# Altium integrated library Ref_altium lib_R0.IntLib: 381 symbols (part 2 of 4)
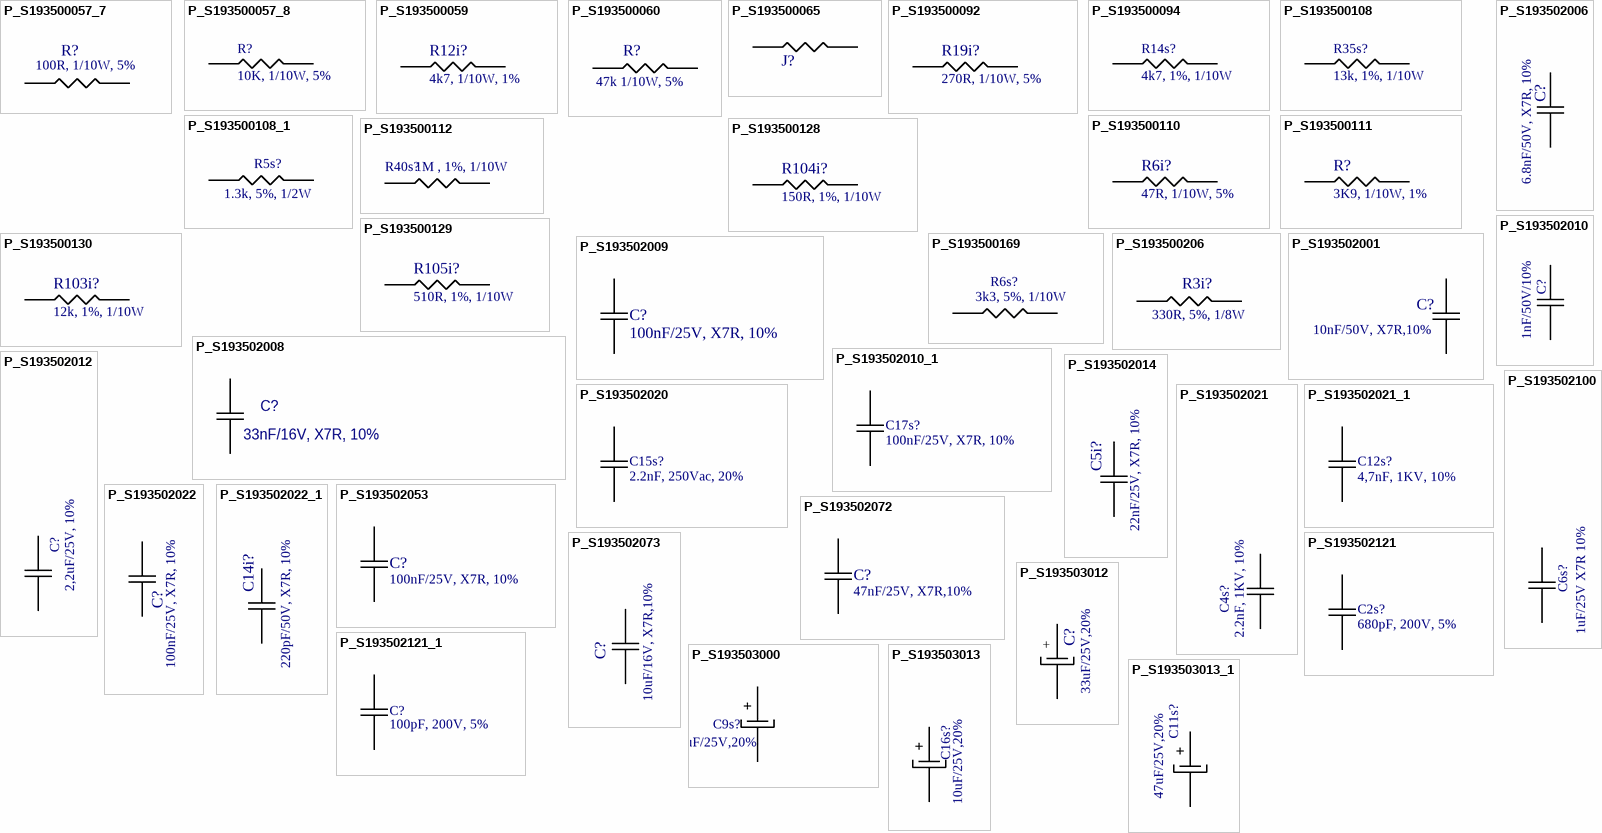
[diagram p12: symbols P_S193500057_7 to P_S193503013_1]

## P_S193502010_1
designator C17s?, comment value 100nF/25V, X7R, 10%  (hidden comment: P_S193502010)
100nF/25V, X7R, 10%; COMPONENT: CAP., 0603 SIZE, 100nF/25V, X7R, 10%; Text Field1: 2238 916 15649 @  Reel 180mm (7") 4000PÇS; Text Field2: PHYCOMP; Text Field3: 2238 916 55649 @  Reel 330mm (13") 15000PÇS; Text Field5: VJ0603Y104KXXAC @ 7" Reel 4000PÇS; Text Field6: VISHAY; EECON CODE: 0193502010; Text Field7: VJ0603Y104KXXAT @ 7" Reel 4000PÇS; Text Field9: C0603C104K5RAC3946 @ Reel 4000 PÇS; Text Field10: KEMET; Text Field11: C0603KRX7R8BB104 @ Reel 180mm (7") 4000PÇS; Text Field12: YAGEO; Text Field13: C0603KPX7R8BB104 @ Reel 330mm (13") 15000PÇS; DES: C17s; Text Field4: PHYCOMP; Text Field8: VISHAY; Text Field14: YAGEO
footprint 0603_R_V0
footprint 0603_O_V0
footprint 0603_O_V1
footprint 0603_R_V3
pins: 1, 2

## P_S193502012
designator C?  value 2,2uF/25V, 10%  (hidden comment: P_S193502012)
2,2uF/25V, 10%; Text Field1: 2222 780 15656 @ Reel (7") 3000PÇS; Text Field2: PHYCOMP; Text Field3: 2222 780 55656 @ Reel (13") 10000PÇS; COMPONENT: CAP., 0805 SIZE, 330nF/16V, X7R, 10%; EECON CODE: new; Text Field4: PHYCOMP
footprint 0805_R_V0
footprint 0805_O_V0
footprint 0805_R_V3
pins: 1, 2

## P_S193502014
designator C5i?  value 22nF/25V, X7R, 10%  (hidden comment: P_S193502014)
22nF/25V, X7R, 10%; Text Field1: 2238 916 15641 @ Reel (7") 4000PÇS; Text Field2: PHYCOMP; Text Field3: 2238 916 55641 @ Reel (13") 15000PÇS; COMPONENT: CAP., 0603 SIZE, 22nF/25V, X7R, 10%; EECON CODE: 0193502014; Text Field4: PHYCOMP
footprint 0603_R_V0
footprint 0603_O_V0
footprint 0603_O_V1
pins: 1, 2

## P_S193502020
designator C15s?  value 2.2nF, 250Vac, 20%  (hidden comment: P_S193502020)
2.2nF, 250Vac, 20%; COMPONENT: CAP., 1206 SIZE, 2.2nF/500V, X7R, +-10%; Text Field1: 2222 971 15627 @ Reel (7") 3000PÇS; Text Field2: PHYCOMP; Text Field3: 2222 971 55627 @ Reel (13") 10000PÇS; EECON CODE: 0193502020; Text Field5: C1206C222KCRAC7533 @  Reel 2500PÇS; Text Field6: KEMET; DES: C15s; Text Field4: PHYCOMP
footprint CAP_CERAMIC_12MM_V0_WHP (C15)
pins: 1, 2

## P_S193502021
designator C4s?  value 2.2nF, 1KV, 10%  (hidden comment: P_S193502021)
2.2nF, 1KV, 10%; COMPONENT: CAP., 0603 SIZE, 2.2nF/50V, X7R, 10%; Text Field1: 2238 586 15627 @ Reel (7") 4000PÇS; Text Field2: PHYCOMP; Text Field3: 2238 586 55627 @ Reel (13") 15000PÇS; EECON CODE: 0193502021; Text Field5: C0603KRX7R9BB222 @ Reel 180mm (7") 4000PÇS; Text Field6: YAGEO; Text Field7: C0603KPX7R9BB222 @ Reel 330mm (13") 15000PÇS; Text Field9: VJ0603Y222KXAAC @ 180mm(7") Reel/4000PÇS; Text Field10: VISHAY; Text Field11: VJ0603Y222KXAAT @ 180mm(7") Reel/4000PÇS; Text Field13: C0603C222K5RACTU @ 180mm(7") Reel 4000PÇS; Text Field14: KEMET; Text Field15: C0603C222K5RAC7867 @ 180mm(7") Reel 4000PÇS; DES: C4s; Text Field4: PHYCOMP; Text Field8: YAGEO; Text Field12: VISHAY; Text Field16: KEMET
footprint CAP_CERAMIC_11MM_V0_WHP (C4)
footprint 2010_R_V0
pins: 1, 2

## P_S193502021_1
designator C12s?, comment value 4,7nF, 1KV, 10%  (hidden comment: P_S193502021)
4,7nF, 1KV, 10%; COMPONENT: CAP., 0603 SIZE, 2.2nF/50V, X7R, 10%; Text Field1: 2238 586 15627 @ Reel (7") 4000PÇS; Text Field2: PHYCOMP; Text Field3: 2238 586 55627 @ Reel (13") 15000PÇS; EECON CODE: 0193502021; Text Field5: C0603KRX7R9BB222 @ Reel 180mm (7") 4000PÇS; Text Field6: YAGEO; Text Field7: C0603KPX7R9BB222 @ Reel 330mm (13") 15000PÇS; Text Field9: VJ0603Y222KXAAC @ 180mm(7") Reel/4000PÇS; Text Field10: VISHAY; Text Field11: VJ0603Y222KXAAT @ 180mm(7") Reel/4000PÇS; Text Field13: C0603C222K5RACTU @ 180mm(7") Reel 4000PÇS; Text Field14: KEMET; Text Field15: C0603C222K5RAC7867 @ 180mm(7") Reel 4000PÇS; DES: C12s; Text Field4: PHYCOMP; Text Field8: YAGEO; Text Field12: VISHAY; Text Field16: KEMET
footprint CAP_CERAMIC_11MM_V0_WHP (C4)
footprint CP6X18R600D
footprint 2010_R_V0
pins: 1, 2

## P_S193502022
designator C?  value 100nF/25V, X7R, 10%  (hidden comment: P_S193502022)
100nF/25V, X7R, 10%; Text Field1: 2238 586 15614 @ (7") 4000PÇS; Text Field2: PHYCOMP; Text Field3: 2238 586 55614 @ (13")  15000PÇS; COMPONENT: CAP., 0603 SIZE, 220pF/50V, X7R, 10%; EECON CODE: 0193502022; Text  Field5: C0603C221K1GAC7533 @ Reel 4000; Text  Field6: KEMET; Text Field4: PHYCOMP
footprint 0603_R_V0
footprint 0603_O_V0
footprint 0603_O_V1
footprint 0603_R_V3
pins: 1, 2

## P_S193502022_1
designator C14i?, comment value 220pF/50V, X7R, 10%  (hidden comment: P_S193502022)
220pF/50V, X7R, 10%; Text Field1: 2238 586 15614 @ (7") 4000PÇS; Text Field2: PHYCOMP; Text Field3: 2238 586 55614 @ (13")  15000PÇS; COMPONENT: CAP., 0603 SIZE, 220pF/50V, X7R, 10%; EECON CODE: 0193502022; Text  Field5: C0603C221K1GAC7533 @ Reel 4000; Text  Field6: KEMET; Text Field4: PHYCOMP
footprint 0603_R_V0
footprint 0603_O_V0
footprint 0603_O_V1
pins: 1, 2

## P_S193502053
designator C?  value 100nF/25V, X7R, 10%  (hidden comment: P_S193502053)
100nF/25V, X7R, 10%; Text Field1: 2238 581 15649 @ Reel 4000PÇS; Text Field2: PHYCOMP; Text Field3: 2238 581 55649 @ Reel 15000PÇS; Text Field5: C1206C104K5RAC3946 @ Reel 2000-3000 PÇS; Text Field6: EPCOS; Text Field7: 2222 581 16641 @ Reel 3000PÇS; COMPOENENT: CAP., 1206 SIZE, 100nF/50V, X7R, 10%; EECON CODE: 0193502053; Text Field4: PHYCOMP; Text Field8: PHYCOMP
footprint 1206_R_V0
footprint 1206_O_V0
footprint 1206_R_VS0
footprint 0603_O_V1
pins: 1, 2

## P_S193502072
designator C?  value 47nF/25V, X7R,10%  (hidden comment: P_S193502072)
47nF/25V, X7R,10%; Text Field1: 2238 916 15645 @ Reel 4000PÇS; Text Field2: PHYCOMP; COMPONENT: CAP.,0603 SIZE,47nF/25V,X7R,10%; EECON CODE: 0193502072
footprint 0603_R_V0
footprint 0603_O_V0
footprint 0603_O_V1
footprint 0603_R_V3
pins: 1, 2

## P_S193502073
designator C?  value 10uF/16V, X7R,10%  (hidden comment: P_S193502073)
10uF/16V, X7R,10%; Text Field1: 2222 781 15672 @ Reel 3000PÇS; Text Field2: PHYCOMP; Text Field3: C1206C475K4RAC7533 @ Reel 2500PÇS; COMPONENT: CAP.,1206 SIZE,4u7F/16V, X7R,10%; EECON CODE: 0193502073; Text Field4: KEMET
footprint 1206_R_V0
footprint 1206_O_V0
pins: 1, 2

## P_S193502100
designator C6s?  value 1uF/25V X7R 10%  (hidden comment: P_S193502100)
1uF/25V X7R 10%; COMPONENT: Capacitor MLCC 1uF 10% 0805 25V X7R; Text Field2: Yageo / Phycomp; Text Field1: 2222 910 15663; DES: C6s; EECON CODE: 193502100
footprint 0805_R_V0
footprint 0805_O_V0
footprint 1206_R_V0
footprint 0805_R_V3
footprint 0805_R_V4
footprint 0805_O_V1
pins: 1, 2

## P_S193502121
designator C2s?  (value not drawn)
820pF/25V,NP0,1%; Text Field1: 223891611348 @ Reel 5000PÇS; Text Field2: PHYCOMP; COMPONENT: CAP.,0603 SIZE,820pF/25V,NP0,1%; EECON CODE: 0193502121; DES: C2s; Value: 820pF/25V,NP0,1%
footprint 0603_R_V0
footprint 0603_O_V0
footprint 1206_R_V2
footprint 1206_R_V2
footprint 1206_O_V0
pins: 1, 2
text: 680pF, 200V, 5%

## P_S193502121_1
designator C?, comment P_S193502121  (value not drawn)
820pF/25V,NP0,1%; Text Field1: 223891611348 @ Reel 5000PÇS; Text Field2: PHYCOMP; COMPONENT: CAP.,0603 SIZE,820pF/25V,NP0,1%; EECON CODE: 0193502121; DES: C21; Value: 820pF/25V,NP0,1%
footprint 0603_R_V0
footprint 0603_O_V0
footprint 0805_R_V3
footprint 0805_R_V4
footprint 0805_O_V1
footprint 0603_O_V1
pins: 1, 2
text: 100pF, 200V, 5%

## P_S193503000
designator C9s?  value 470uF/25V,20%  (hidden comment: P_S193503000)
470uF/25V,20%; COMPONENT: CAP., 470uF/25V,FK MODEL, 2000h, 105C; Text Field1: EEEFK1E471P @ AMMOPACK 500PÇS; Text Field2: PANASONIC; Text Field3: EEVFK1E471P @ AMMOPACK 500PÇS; EECON CODE: 0193503000; DES: C9s; Text Field4: PANASONIC
footprint CAP-ELETRO-G_R_V0
footprint CAP-ELETRO-EB-8_V0
pins: 1, 2
text: +

## P_S193503012
designator C?  value 33uF/25V,20%  (hidden comment: P_S193503012)
33uF/25V,20%; Text Field1: EEEFK1E330UR @ AMMOPACK 1000PÇS; Text Field2: PANASONIC; COMPONENT: CAP.ELET. ,33uF/25,FK Model,2000h,105C,20%; EECON CODE: 0193503012
footprint CAP-ELETRO-C_R_V0
pins: 1, 2
text: +

## P_S193503013
designator C16s?  value 10uF/25V,20%  (hidden comment: P_S193503013)
10uF/25V,20%; COMPONENT: CAP.ELET.,10uF/25V; Text Field1: UCD1E100MCL1GS; Text Field2: NICHICON; EECON CODE: new; DES: C16s
footprint CAP-ELETRO-F_R_V0
footprint CAP-ELETRO-B_R_V0
footprint CAP-ELETRO-B_R_V1
pins: 1, 2
text: +

## P_S193503013_1
designator C11s?, comment value 47uF/25V,20%  (hidden comment: P_S193503013)
47uF/25V,20%; COMPONENT: CAP.ELET.,47uF/25V; Text Field2: NICHICON; Text Field1: UCD1E470MCL1GS; EECON CODE: new; DES: C11s
footprint CAP-ELETRO-F_R_V2 (From IPC-7351 Spec)
footprint CAP-ELETRO-C_R_V3
pins: 1, 2
text: +

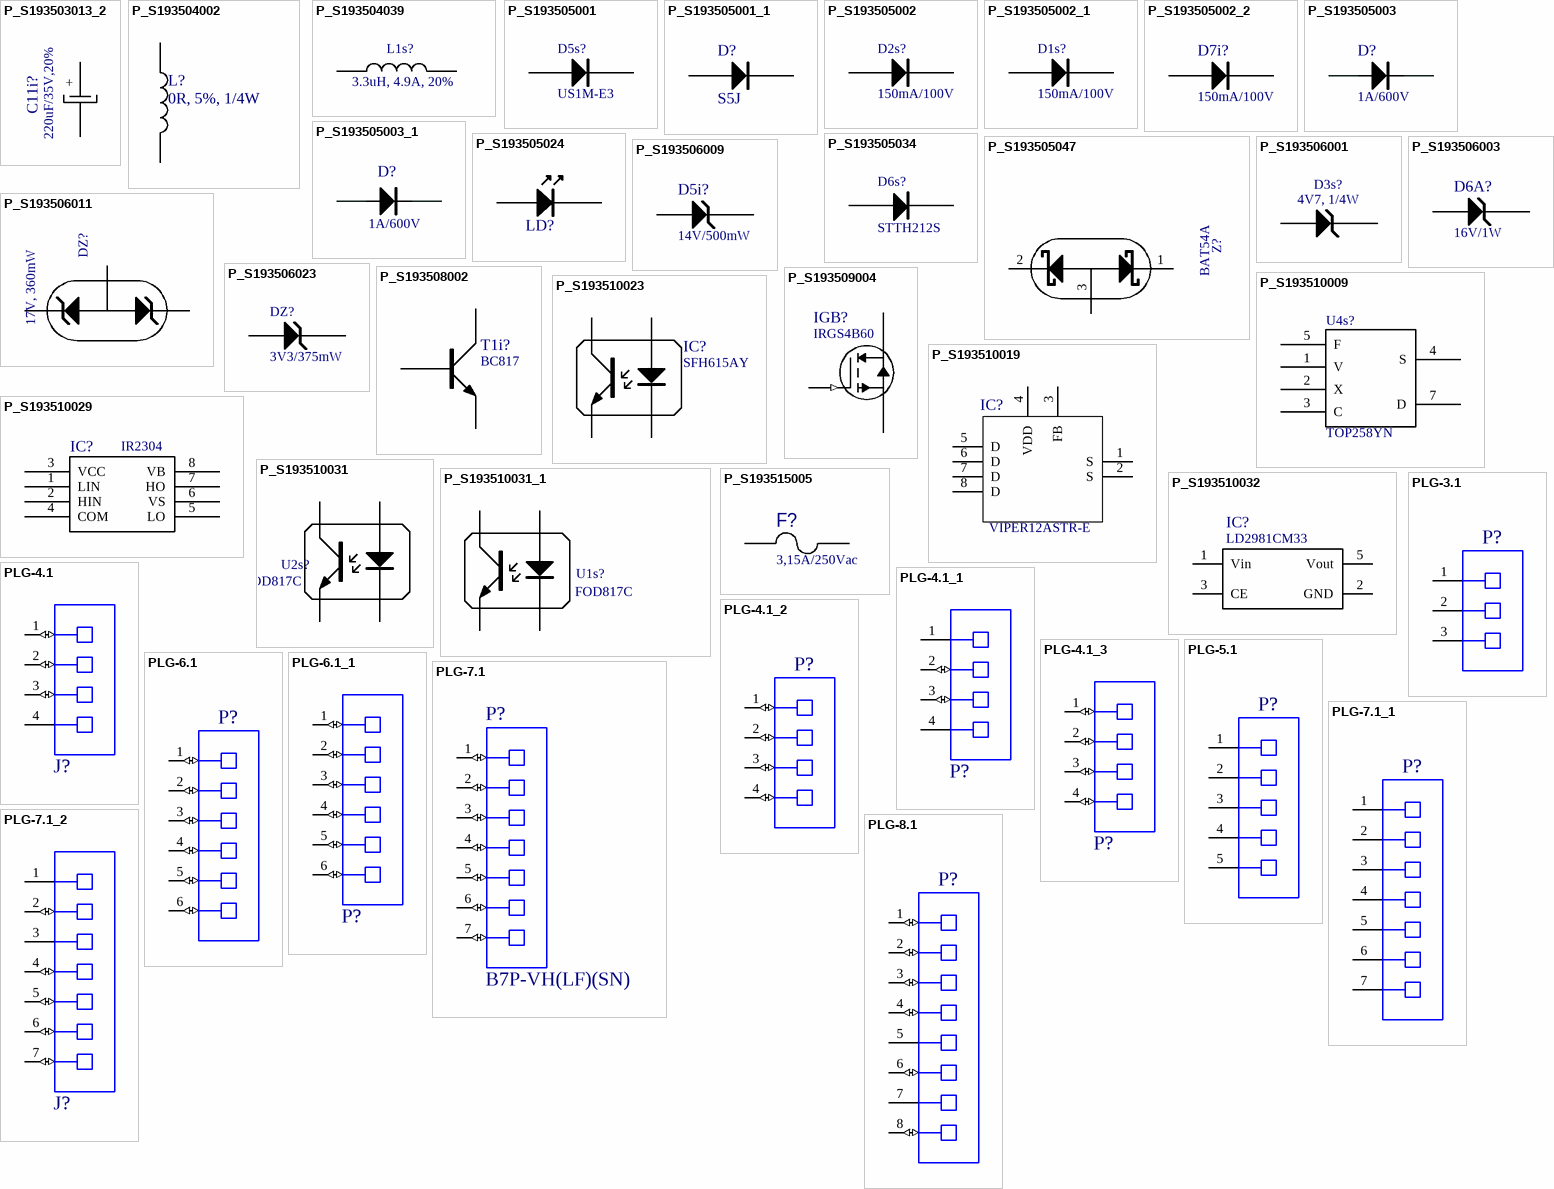
[diagram p3: symbols P_S193503013_2 to PLG-8.1]

## P_S193503013_2
designator C11i?, comment value 220uF/35V,20%  (hidden comment: P_S193503013)
220uF/35V,20%; Text Field1: EEEFK1V221P @ AMMOPACK 500PÇS; Text Field2: PANASONIC; COMPONENT: CAP.ELET.,220uF/35FK Model , 2000h,105C, 20%; EECON CODE: 0193503013
footprint CAP-ELETRO-F_R_V0
footprint CAP_ELETRO_F_R_VS0
footprint CAP-ELETRO-F_R_V2
pins: 1, 2
text: +

## P_S193504002
designator L?  value 0R, 5%, 1/4W  (hidden comment: P_S193504002)
0R, 5%, 1/4W; Text Field1: FERRITE INDUCTOR , 1812, 120 ohms @ 100Mhz, 1.5A; Text Field2: M11812K121R-10; Text Field3: STEWARD; DES: L001
footprint 1812_O_V0
footprint 1812_O_VS0
footprint 1812_R_V0
pins: 1, 2

## P_S193504039
designator L1s?  value 3.3uH, 4.9A, 20%  (hidden comment: P_S193504039)
3.3uH, 4.9A, 20%; Text Field3: VISHAY; Text Field2: IHLP5050EZER4R7M01; COMPONENT: Low profile, High Current Inductor 4,7uH/12A; EECON CODE: 0193504039; DES: L1s
footprint INDUCTOR_3u3H_RADIAL (3.3uH/20% 4.9A - ELC11D3R3F / PANASONIC)
pins: 1, 2

## P_S193505001
designator D5s?  (value not drawn)
5A/600V; COMPONENT: DIODE, SMC,5A/600V; Text Field1: S5JC-13-F @ TAPE & REEL 3000PÇS; Text Field2: DIODES; EECON CODE: 0193505001; DES: D5s; Value: 5A/600V
footprint SMC_R_V0
footprint SMC_O_V0
footprint SMA_403D_R_V0
footprint SMA_R_V3
footprint SMA_403D_O_V1
pins: 1, 2
text: US1M-E3

## P_S193505001_1
designator D?, comment value S5J  (hidden comment: P_S193505001)
S5J; Text Field1: DIODE 5A/600V; Text Field2: S5JC-13-F @ TAPE & REEL 3000PÇS; Text Field3: DIODES; DES: D002
footprint SMC_O_V0
footprint SMC_R_V0
pins: 1, 2

## P_S193505002
designator D2s?  value 150mA/100V  (hidden comment: P_S193505002)
150mA/100V; COMPONENT: FAST SWITCHING DIODE 150mA/100V MINIMELF-SOD-80; Text Field1: LL4148 GS08 @ Reel 2500PÇS; Text Field2: VISHAY; EECON CODE: 0193505002; Text Field3: LL4148-GS18 @ Reel 10000PÇS; Text Field5: LS4148GS08 @ Reel 2500PÇS; DES: D2s; Text Field4: VISHAY; Text Field6: VISHAY
footprint MINIMELF_R_V0
footprint MINIMELF_O_V0
footprint MIniMELF_R_V0_WHP
pins: 1, 2

## P_S193505002_1
designator D1s?, comment value 150mA/100V  (hidden comment: P_S193505002)
150mA/100V; COMPONENT: FAST SWITCHING DIODE 150mA/100V MINIMELF-SOD-80; Text Field1: LL4148 GS08 @ Reel 2500PÇS; Text Field2: VISHAY; EECON CODE: 0193505002; Text Field3: LL4148-GS18 @ Reel 10000PÇS; Text Field5: LS4148GS08 @ Reel 2500PÇS; DES: D1s; Text Field4: VISHAY; Text Field6: VISHAY
footprint MINIMELF_R_V0
footprint MINIMELF_O_V0
footprint MIniMELF_R_V0
footprint MIniMELF_R_V0_WHP
pins: 1, 2

## P_S193505002_2
designator D7i?, comment value 150mA/100V  (hidden comment: P_S193505002)
150mA/100V; Text Field1: LL4148 GS08 @ Reel 2500PÇS; Text Field2: VISHAY; Text Field3: LL4148-GS18 @ Reel 10000PÇS; Text Field5: LS4148GS08 @ Reel 2500PÇS; COMPONENT: FAST SWITCHING DIODE 150mA/100V MINIMELF-SOD-80; EECON CODE: 0193505002; Text Field4: VISHAY; Text Field6: VISHAY
footprint MINIMELF_R_V0
footprint MINIMELF_O_V0
pins: 1, 2

## P_S193505003
designator D?  value 1A/600V  (hidden comment: P_S193505003)
1A/600V; Text Field1: BYM11-600-E3/96 @ Reel 1500PÇS; Text Field2: GENERAL SEMICONDUCTOR; Text Field3: BYM11-600-E3/76 @ Reel 1500PÇS; COMPONENT: FAST RECOVER DIODE, 1A/600V, DO213-AB; EECON CODE: 0193505003; Text Field5: BYM11-600-E3/76 - GS @ Reel 5000PÇS; Text Field6: VISHAY; Text Field7: BYM11-600-E3/96 - GS @ Reel 1500PÇS; Text Field4: GENERAL SEMICONDUCTOR; Text Field8: VISHAY
footprint MELF_R_V0
footprint MELF_O_V0
pins: 1, 2

## P_S193505003_1
designator D?, comment value 1A/600V  (hidden comment: P_S193505003)
1A/600V; Text Field1: BYM11-600-E3/96 @ Reel 1500PÇS; Text Field2: GENERAL SEMICONDUCTOR; Text Field3: BYM11-600-E3/76 @ Reel 1500PÇS; COMPONENT: FAST RECOVER DIODE, 1A/600V, DO213-AB; EECON CODE: 0193505003; Text Field5: BYM11-600-E3/76 - GS @ Reel 5000PÇS; Text Field6: VISHAY; Text Field7: BYM11-600-E3/96 - GS @ Reel 1500PÇS; Text Field4: GENERAL SEMICONDUCTOR; Text Field8: VISHAY
footprint MELF_R_V0
footprint MELF_O_V0
footprint MELF1_R_VS1
pins: 1, 2

## P_S193505024
designator LD?  (value not drawn)
GREEN; Text Field1: XZBGA88WT1 @ Reel 2000PÇS; Text Field2: SUNLED; COMPONENT: LAMP CHIP LED,3.2X1.0MM, GREEN; EECON CODE: 0193505024; Value: GREEN
footprint SML310W_O_V0
footprint SML310W_R_V0
footprint SML310W_R_V3
pins: 1 K, 2 A

## P_S193505034
designator D6s?  value STTH212S  (hidden comment: P_S193505034)
STTH212S; COMPONENT: FAST RECOVER DIODE, 2A/1000V, SMC; Text Field2: ST; EECON CODE: new; DES: D6s; Text Field1: STTH212S
footprint SMC_R_V0
footprint SMC_R_V0_WHP
footprint SMC_R_V0_WHP
footprint SMC_O_V0
pins: 1, 2

## P_S193505047
designator Z?, comment value BAT54A  (hidden comment: P_S193506011)
BAT54A; COMPONENT: SMD SCHOTTKY DIODE, DOUBLE COMMON ANODE, SOT23; Text Field2: VISHAY; EECON CODE: 0193505047; Text Field1: BAT54A-V-GS08 @ Reel 3000PÇS
footprint SOT-23_R_V0
footprint SOT-23_O_V0
footprint SOT-23_R_V1_WHP
pins: 1, 2, 3
1 alternate drawing of the same symbol

## P_S193506001
designator D3s?  value 4V7, 1/4W  (hidden comment: P_S193506001)
4V7, 1/4W; COMPONENT: SMD DIODE ZENER  SMALL SIGNALS SOT23, 2.4V, 225mW; Text Field1: BZX84-C2V4 @ Reel 13"10000PÇS   7"3000PÇS; Text Field2: Vishay; Text Field3: BZX84C2V4LT1G @ Reel 3000PÇS; Text Field4: ON SEMICONDUCTORS; EECON CODE: 0193506001; DES: D3s
footprint SOT-23_R_V0
footprint SOT-23_O_V0
footprint SOT-23_R_V1_WHP
footprint SOT23_V0
pins: 1, 3

## P_S193506003
designator D6A?  value 16V/1W  (hidden comment: P_S193506003)
16V/1W; Text Field1: MMSZ4703T1G @ Reel 3000PÇS; Text Field2: ON SEMICONDUTOR; Text Field3: MMSZ4703-V-GS08 @ Reel 3000PÇS; COMPONENT: DIODE ZENER  16V/500mW; EECON CODE: 0193506003; Text Field4: Vishay
footprint SOD-123_R_V0
footprint SOD-123_O_V0
footprint SOD-123_R_VS0
footprint SOD-123_R_V2
pins: 1, 2

## P_S193506009
designator D5i?  value 14V/500mW  (hidden comment: P_S193506009)
14V/500mW; Text Field1: MMSZ4701-V-GS18@PGK 10000PÇS; Text Field2: ONSEMI; Text Field3: MMSZ4701-V-GS08@PGK 15000PÇS; Text Field5: MMSZ4701T1G @ Reel 3000PÇS; COMPONENT: DIODE ZENER, 14V/500mW,SOD-123; Text Field4: ONSEMI; EECON CODE: 193506009; Text Field6: ONSEMI
footprint SOD-123_R_V0
footprint SOD-123_O_V0
footprint SOD-123_R_V2
pins: 1, 2

## P_S193506011
designator DZ?  value 17V, 360mW  (hidden comment: P_S193506011)
17V, 360mW; COMPONENT: SMD DIODE ZENER, DOUBLE COMMON ANODE, SOT23 -5,6V, 300mW; Text Field2: ON SEMICONDUCTORS; EECON CODE: 0193506011; Text Field1: MMBZ5V6ALT1G @ Reel 3000PÇS; Text Field3: MMBZ5V6AL-7-F @ Reel 3000PÇS; Text Field4: DIODES
footprint SOT-23_R_V0
footprint SOT-23_O_V0
footprint SOT-23_R_V1_WHP
pins: 1, 2, 3
1 alternate drawing of the same symbol

## P_S193506023
designator DZ?  value 3V3/375mW  (hidden comment: P_S193506023)
3V3/375mW; COMPONENT: DIODE ZENER  16V/1W; Text Field1: KDZTR16B; Text Field2: ROHM; EECON CODE: 0193506023
footprint SOD-123_R_V0
footprint SOD-123_O_V0
footprint SMA_403D_R_V0
footprint SOD-123W_O_V0
footprint SOD-123_R_V2
pins: 1, 2

## P_S193508002
designator T1i?  value BC817  (hidden comment: P_S193508002)
BC817; Text Field1: BC817-25LT1G @ Reel 3000PÇS; Text Field2: ON SEMICONDUCTOR; Text Field3: BC81725, 215; Text Field4: NXP; COMPONENT: TRANSISTOR, NPN, SOT23; EECON CODE: 0193508002
footprint SOT-23_R_V0
footprint SOT-23_O_V0
footprint SOT-23_R_V1_WHP
pins: 1, 2, 3

## P_S193509004
designator IGB?  value IRGS4B60  (hidden comment: P_S193509004)
IRGS4B60; Text Field1: IRGS4B60KD1TRRPBF@ Standard Pack 50000PÇS; Text Field2: IR; COMPONENT: VERY FAST POWER IGBT 7,6A/600V; EECON CODE: 0193509004
footprint D2PAK_O_V0
footprint D2PAK_R_V0
footprint D2PAK_R_V5
pins: 1 (in), 2, 3

## P_S193510009
designator U4s?  (value not drawn)
DRIVER 2304S; COMPONENT: IC, DRIVER 2304S (ONLY IN PBF)  / 2104S (ALSO IN PBF); Text Field1: IR2304STRPBF @ Standard  Pack 95PÇS; Text Field2: IR; Text Field3: IR2104STRPBF @ Standard  Pack 95PÇS; EECON CONDE: 0193510009; DES: U4s; Text Field4: IR; Value: DRIVER 2304S
footprint TO220-7C
pins: 1 V, 2 X, 3 C, 4 S, 5 F, 7 D
text: TOP258YN

## P_S193510019
designator IC?  value VIPER12ASTR-E  (hidden comment: P_S193510019)
VIPER12ASTR-E; Text Field3: ST; COMPONENT: LOW POWER OFF LINE PRIMARY SWITCHER 400mA; EECON CODE: 0193510019; Text Field2: VIPER12ASTR-E
footprint SO-8_R_V0
footprint SO-8_O_V0
footprint SO-8_R_VS0
pins: 1 S, 2 S, 3 FB, 4 VDD, 5 D, 6 D, 7 D, 8 D

## P_S193510023
designator IC?  value SFH615AY  (hidden comment: P_S193510023)
SFH615AY; Text Field4: FOD817C3SD @ T&R 1000PÇS; Text Field5: FAIRCHILD; Text Field6: FOD817A3SD @ T&R 1000PÇS; COMPONENT: IC, OPTOACOPLADOR, VDE0884 APPROVED; EECON CODE: 0193510023; Text Field7: FAIRCHILD
footprint OPTO_R_V0
footprint OPTO_O_V0
footprint OPTO_R_V1_WHP
pins: 1, 2, 3, 4

## P_S193510029
designator IC?  value IR2304  (hidden comment: P_S193510029)
IR2304; Text Field1: IR2304SPbF@ Standard  Pack 95PÇS; Text Field2: IR; COMPONENT: IC, HIGH-VOLTAGE HIGH AND LOW SIDE DRIVER; EECON CODE: 0193510029
footprint SO-8_R_V0
footprint SO-8_O_V0
footprint SO-8_R_VS0
pins: 1 LIN, 2 HIN, 3 VCC, 4 COM, 5 LO, 6 VS, 7 HO, 8 VB

## P_S193510031
designator U2s?  value FOD817C  (hidden comment: P_S193510031)
FOD817C; COMPONENT: IC, OPTOACOPLADOR, VDE0884 APPROVED; Text Field1: SFH615AY-X019T; Text Field2: VISHAY; EECON CODE: 0193510031; DES: U2s
footprint OPTO_R_V0
footprint OPTO_O_V0
footprint OPTO_R_V1_WHP
pins: 1, 2, 3, 4

## P_S193510031_1
designator U1s?, comment value FOD817C  (hidden comment: P_S193510031)
FOD817C; COMPONENT: IC, OPTOACOPLADOR, VDE0884 APPROVED; Text Field1: SFH615AY-X019T; Text Field2: VISHAY; EECON CODE: 0193510031; DES: U1s
footprint OPTO_R_V0
footprint OPTO_O_V0
footprint OPTO_R_V1_WHP
footprint SO-16_R_WHP
pins: 1, 2, 3, 4

## P_S193510032
designator IC?  value LD2981CM33  (hidden comment: P_S193510032)
LD2981CM33; Text Field1: LD2981CM33TR @ Tape and Reel  3000PÇS; Text Field2: ST; COMPONENT: LINEAR VOLTAGE REGULADOR, SERIE MC78P00, LOW NOISE 150mA, LDO; EECON CODE: 0193510032
footprint SOT-23-5_R_V0
footprint SOT-25
footprint SOT-23-5_R_V1
pins: 1 Vin, 2 GND, 3 CE, 5 Vout

## P_S193515005
designator F?  value 3,15A/250Vac  (hidden comment: P_S193515005)
3,15A/250Vac; COMPONENT: FUSIVEL MODELO OMT 250V/1A; Text Field1: 3403.0130.24.BF @  T&R 2000PÇS; Text Field2: SCHURTER; EECON CODE: 0193515005; DES: F2
footprint FUSE_R_V0
footprint FUSE_O_V0
footprint Fuse_R_V0_WHP
footprint FUSE_SPT_R_V2
pins: 1, 2

## PLG-3.1
designator P?, comment DEV  (value not drawn)
MANUPARTNUM: B03B-XASK-1-A(LF)(SN); LEVEL: STD; PKG_TYPE: JST_B03B-XASK-1-A; DXDB_LIBNAME: CONNECTORS; ECAD#: 010-00032-00; STD_DESC: CONN HDR-VERT SHRD 3P 3A; P_SPACING: 2.5MM; AMPS: 3A; CIRCUITS: 3; DEV_PKG: PTH; CAM_PREFERRED: 1; EDC_P/N: W10113700; DES: P9; PACKAGE: PACK; DEVICE: DEV; DATE: 09-Oct-06; SUPPLIER#1_NAME: JST; STATUS: ACTIVE
footprint JST_B03B-XASK-1-A
footprint B03B-XASS-1_WHP
pins: 1 N1, 2 N2, 3 N3

## PLG-4.1
designator J?, comment DEV  (value not drawn)
MANUPARTNUM: B04B-PASK-1 (LF) (SN); LEVEL: STD; PKG_TYPE: JST_B04B-PASK-1; CAM_PREFERRED: 2; DXDB_LIBNAME: CONNECTORS; ECAD#: 010-00266-00; AML_REVISION: AC; STD_DESC: CONN VERT 4POS 3A 2MM SPC PTH ROHS; P_SPACING: 2MM; AMPS: 3A; CIRCUITS: 4; DEV_PKG: PTH; EDC_P/N: W10218944; DES: J1; PACKAGE: PACK; DEVICE: DEV; DATE: 15-Aug-08; SUPPLIER#1_NAME: JST; STATUS: PRELIM
footprint JST_B04B-PASK-1
footprint B4P-PASK_1_WHP
pins: 1 N1 (io), 2 N2 (io), 3 N3 (io), 4 N4

## PLG-4.1_1
designator P?, comment DEV  (value not drawn)
MANUPARTNUM: B4P-VH(LF)(SN); LEVEL: STD; PKG_TYPE: JST_B4P-VH; DXDB_LIBNAME: CONNECTORS; ECAD#: 010-00137-00; STD_DESC: CONN HDR-VERT LOCKING 4 POS; P_SPACING: 3.96MM; AMPS: 10A; CIRCUITS: 4; DEV_PKG: PTH; CAM_PREFERRED: 1; EDC_P/N: W10155093; DES: P4; PACKAGE: PACK; DEVICE: DEV; DATE: 07-Sep-07; SUPPLIER#1_NAME: JST; STATUS: ACTIVE
footprint JST_B4P-VH
footprint CON-B4P-VH_WHP
footprint CON-B4P-VH_WHP_V1
pins: 1 N1, 2 N2 (io), 3 N3 (io), 4 N4

## PLG-4.1_2
designator P?, comment DEV  (value not drawn)
MANUPARTNUM: B04B-XASK-1-A(LF)(SN); LEVEL: STD; PKG_TYPE: JST_B04B-XASK-1-A; CAM_PREFERRED: 1; DXDB_LIBNAME: CONNECTORS; ECAD#: 010-00033-00; AML_REVISION: S; STD_DESC: CONN HDR-VERT SHRD 4P 3A; P_SPACING: 2.54MM; AMPS: 3A; CIRCUITS: 4; DEV_PKG: PTH; EDC_P/N: W10113701; DES: P5; PACKAGE: PACK; DEVICE: DEV; DATE: 09-Oct-06; SUPPLIER#1_NAME: JST; STATUS: ACTIVE
footprint JST_B04B-XASK-1-A
footprint B04B-XASS-1_WHP
pins: 1 N1 (io), 2 N2 (io), 3 N3 (io), 4 N4 (io)

## PLG-4.1_3
designator P?, comment DEV  (value not drawn)
MANUPARTNUM: 91999-1284; LEVEL: STD; PKG_TYPE: MOL_90858-1284; DXDB_LIBNAME: CONNECTORS; ECAD#: 010-00051-00; STD_DESC: CONN HDR-VERT 4POS 16A 5MM SPC PTH; P_SPACING: 5MM; AMPS: 16A; CIRCUITS: 4; DEV_PKG: PTH; CAM_PREFERRED: 3; EDC_P/N: W10120695; DES: P1; PACKAGE: PACK; DEVICE: DEV; DATE: 17-Jan-07; SUPPLIER#1_NAME: MOLEX; STATUS: ACTIVE
footprint MOL_90858-1284
footprint CON_RAST5_WHP
pins: 1 N1 (io), 2 N2 (io), 3 N3 (io), 4 N4 (io)

## PLG-5.1
designator P?, comment DEV  (value not drawn)
MANUPARTNUM: B05B-XASK-1-A(LF)(SN); LEVEL: STD; PKG_TYPE: JST_B05B-XASK-1-A; DXDB_LIBNAME: CONNECTORS; ECAD#: 010-00062-00; STD_DESC: CONN HDR-VERT 5POS 3A 2.50MM LOCK PTH; P_SPACING: 2.5MM; AMPS: 3A; CIRCUITS: 5; DEV_PKG: PTH; CAM_PREFERRED: 1; EDC_P/N: W10123134; DES: P13; PACKAGE: PACK; DEVICE: DEV; DATE: 09-Feb-07; SUPPLIER#1_NAME: JST; STATUS: ACTIVE
footprint JST_B05B-XASK-1-A
footprint B05B-XASS-1-T_WHP
pins: 1 N1, 2 N2, 3 N3, 4 N4, 5 N5

## PLG-6.1
designator P?, comment DEV  (value not drawn)
MANUPARTNUM: B06B-XASK-1-A(LF)(SN); LEVEL: STD; PKG_TYPE: PKG; CAM_PREFERRED: 1; DXDB_LIBNAME: CONNECTORS; AMPS: 3A; CIRCUITS: 6; DES: P7; PACKAGE: PACK; DEVICE: DEV; DATE: 21-Mar-07
footprint PKG
footprint B06B-XASS-1_WHP
pins: 1 N1 (io), 2 N2 (io), 3 N3 (io), 4 N4 (io), 5 N5 (io), 6 N6 (io)

## PLG-6.1_1
designator P?, comment DEV  (value not drawn)
MANUPARTNUM: B6P-VH(LF)(SN); LEVEL: STD; PKG_TYPE: JST_B6P-VH; DXDB_LIBNAME: CONNECTORS; ECAD#: 010-00293-00; STD_DESC: CONN HDR-VERT 6POS 10A 3.96MM SPC PTH; P_SPACING: 3.96MM; AMPS: 10A; CIRCUITS: 6; DEV_PKG: PTH; CAM_PREFERRED: 1; EDC_P/N: W10242758; DES: P12; PACKAGE: PACK; DEVICE: DEV; DATE: 31-Mar-09; SUPPLIER#1_NAME: JST; STATUS: ACTIVE
footprint JST_B6P-VH
footprint CON-B6P-VH_WHP
footprint CON-B6P-VH_WHP_V1
pins: 1 N1 (io), 2 N2 (io), 3 N3 (io), 4 N4 (io), 5 N5 (io), 6 N6 (io)

## PLG-7.1
designator P?, comment MANUPARTNUM: B7P-VH(LF)(SN)  (hidden comment: DEV)
LEVEL: STD; PKG_TYPE: PKG; CAM_PREFERRED: 1; STD_DESC: 7-PIN,0.156; DXDB_LIBNAME: CONNECTORS; AMPS: 10A; CIRCUITS: 7; DES: P2; PACKAGE: PACK; DEVICE: DEV; DATE: 28-Jan-10
footprint PKG
footprint CON-B7P-VH_WHP
footprint CON-B7P-VH_WHP_V1
pins: 1 N1 (io), 2 N2 (io), 3 N3 (io), 4 N4 (io), 5 N5 (io), 6 N6 (io), 7 N7 (io)

## PLG-7.1_1
designator P?, comment DEV  (value not drawn)
MANUPARTNUM: B07B-XASK-1-A(LF)(SN); LEVEL: STD; PKG_TYPE: JST_B07B-XASK-1-A; DXDB_LIBNAME: CONNECTORS; ECAD#: 010-00135-00; STD_DESC: CONN WIRE HDR-VERT 7P 2.5MM; P_SPACING: 2.5MM; AMPS: 3A; CIRCUITS: 7; DEV_PKG: PTH; CAM_PREFERRED: 1; EDC_P/N: W10155041; DES: P14; PACKAGE: PACK; DEVICE: DEV; DATE: 05-Sep-07; SUPPLIER#1_NAME: JST; STATUS: ACTIVE
footprint JST_B07B-XASK-1-A
footprint B07B-XASS-1-T_WHP
pins: 1 N1, 2 N2, 3 N3, 4 N4, 5 N5, 6 N6, 7 N7

## PLG-7.1_2
designator J?, comment DEV  (value not drawn)
LEVEL: STD; PKG_TYPE: STOCK_MKF13477-6-X-707; CAM_PREFERRED: 5; DXDB_LIBNAME: CONNECTORS; ECAD#: 010-00103-01; STD_DESC: FOIL PATTERN - CONN EDGE  7POS RAST2.5; P_SPACING: 2.5MM; CIRCUITS: 7; EDC_P/N: GENERIC_041; DES: J2; PACKAGE: PACK; DEVICE: DEV; DATE: 16-Dec-08; AML_REVISION: N/A; STATUS: GENERIC; DEV_PKG: N/A
footprint STOCK_MKF13477-6-X-707
footprint CON_07_EDGE
pins: 1 N1, 2 N2 (io), 3 N3, 4 N4 (io), 5 N5 (io), 6 N6 (io), 7 N7 (io)

## PLG-8.1
designator P?, comment DEV  (value not drawn)
MANUPARTNUM: B08B-XASK-1-A(LF)(SN); LEVEL: STD; PKG_TYPE: JST_B08B-XASK-1-A; CAM_PREFERRED: 1; DXDB_LIBNAME: CONNECTORS; ECAD#: 010-00134-00; AML_REVISION: W; STD_DESC: CONN WIRE HDR VERT 8P 2.5MM; P_SPACING: 2.5MM; AMPS: 3A; CIRCUITS: 8; DEV_PKG: PTH; EDC_P/N: W10155039; DES: P8; PACKAGE: PACK; DEVICE: DEV; DATE: 05-Sep-07; SUPPLIER#1_NAME: JST; STATUS: ACTIVE
footprint JST_B08B-XASK-1-A
footprint B08B-XASS-1_WHP
pins: 1 N1 (io), 2 N2 (io), 3 N3 (io), 4 N4 (io), 5 N5, 6 N6 (io), 7 N7, 8 N8 (io)

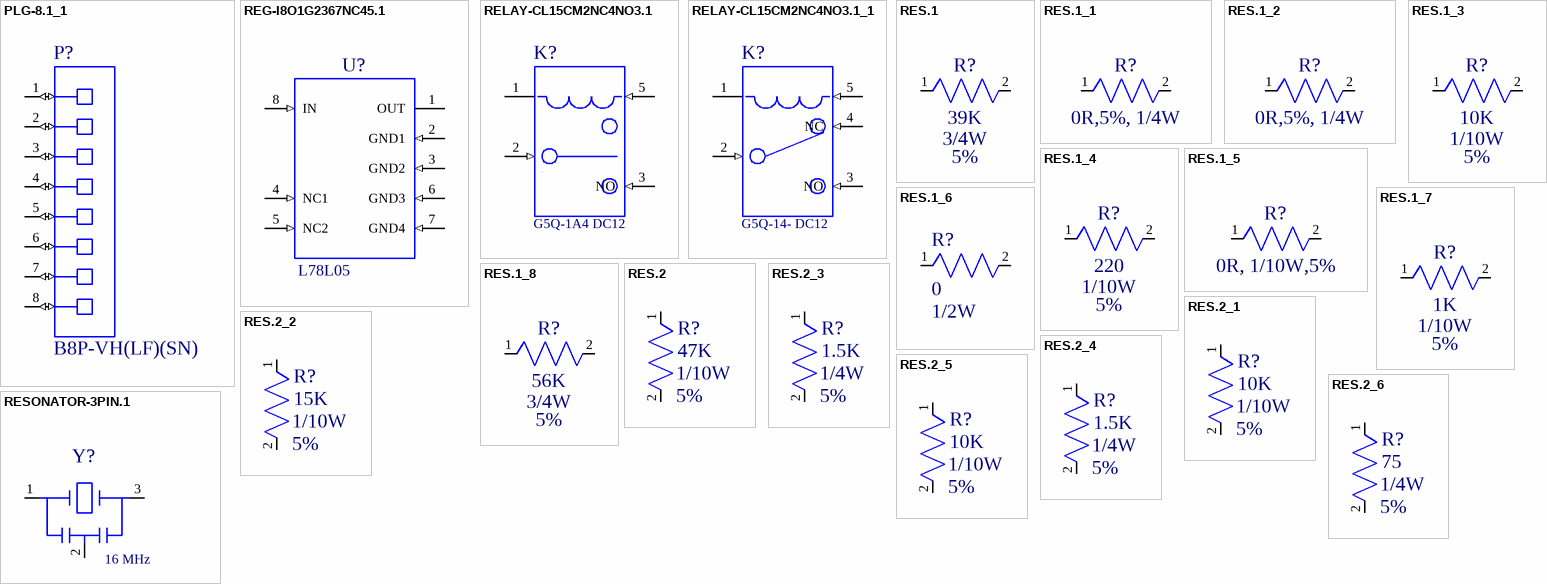
[diagram p4: symbols PLG-8.1_1 to RESONATOR-3PIN.1]

## PLG-8.1_1
designator P?, comment MANUPARTNUM: B8P-VH(LF)(SN)  (hidden comment: DEV)
LEVEL: STD; PKG_TYPE: PKG; CAM_PREFERRED: 1; STD_DESC: 8-PIN, 0.156; DXDB_LIBNAME: CONNECTORS; AMPS: 10A; CIRCUITS: 8; DES: P3; PACKAGE: PACK; DEVICE: DEV; DATE: 28-Jan-10
footprint PKG
footprint CON-B8P-VH_WHP
footprint CON-B8P-VH_WHP_V1
pins: 1 N1 (io), 2 N2 (io), 3 N3 (io), 4 N4 (io), 5 N5 (io), 6 N6 (io), 7 N7 (io), 8 N8 (io)

## REG-I8O1G2367NC45.1
designator U?, comment value L78L05  (hidden comment: DEV)
L78L05; MANUPARTNUM: MC78L05ACD; LEVEL: STD; PKG_TYPE: SOIC127P600_8_D490N; DXDB_LIBNAME: INTEGRATED CIRCUITS; ECAD#: 130-00006-00; STD_DESC: IC, VOLTAGE REGULATOR, 5V 100 MA; TEMP: 0C TO 150C; TOLERANCE: 5%; DEV_PKG: SO8; CAM_PREFERRED: 1; EDC_P/N: W10120705; DES: U13; PACKAGE: PACK; DEVICE: DEV; DATE: 13-Dec-06; SUPPLIER#2_P/N: MC78L05ACDR2G; SUPPLIER#2_NAME: ON SEMICOND; SUPPLIER#1_NAME: FAIRCHILD SEMICOND; STATUS: ACTIVE
footprint SOIC127P600_8_D490N
footprint SO-8_R_WHP
pins: 1 OUT, 2 GND1 (in), 3 GND2 (in), 4 NC1 (in), 5 NC2 (in), 6 GND3 (in), 7 GND4 (in), 8 IN (in)

## RELAY-CL15CM2NC4NO3.1
designator K?, comment value G5Q-1A4 DC12  (hidden comment: DEV)
G5Q-1A4 DC12; MANUPARTNUM: G5Q-14-DC12; LEVEL: STD; PKG_TYPE: RLYT5_OMRON_G5Q_SPDT; TEMP: -40C TO 85C; CAM_PREFERRED: 2; DXDB_LIBNAME: RELAYS; ECAD#: 400-00007-00; STD_DESC: RELAY, GEN SPDT 10A 12V 0.4W G5Q ROHS; FORM_CONTACTS: 1P/2T, 1C; I_CONTACTS: 10A; COIL_RES: 360; VOLTAGE: 12V; DEV_PKG: PTH; EDC_P/N: W10120701; DES: K6; PACKAGE: PACK; DEVICE: DEV; DATE: 17-Jan-07; SUPPLIER#1_NAME: OMRON; STATUS: ACTIVE
footprint RLYT5_OMRON_G5Q_SPDT
footprint RELAY_G5Q14_WHP
pins: 1 C1, 2 COM (in), 3 NO (in), 5 C2 (in)

## RELAY-CL15CM2NC4NO3.1_1
designator K?, comment value G5Q-14- DC12  (hidden comment: DEV)
G5Q-14- DC12; LEVEL: STD; PKG_TYPE: RLYT5_OMRON_G5Q_SPDT; TEMP: -40C TO 85C; CAM_PREFERRED: 2; DXDB_LIBNAME: RELAYS; ECAD#: 400-00007-00; STD_DESC: RELAY, GEN SPDT 10A 12V 0.4W G5Q ROHS; FORM_CONTACTS: 1P/2T, 1C; I_CONTACTS: 10A; COIL_RES: 360; VOLTAGE: 12V; DEV_PKG: PTH; EDC_P/N: W10120701; DES: K5; MANUPARTNUM: G5Q-14-DC12; PACKAGE: PACK; DEVICE: DEV; DATE: 17-Jan-07; SUPPLIER#1_NAME: OMRON; STATUS: ACTIVE
footprint RLYT5_OMRON_G5Q_SPDT
footprint RELAY_G5Q14_WHP
pins: 1 C1, 2 COM (in), 3 NO (in), 4 NC (in), 5 C2 (in)

## RES.1
designator R?, comment value 39K  POWER_RATING: 3/4W  TOLERANCE: 5%  (hidden comment: DEV)
39K; MANUPARTNUM: MANUPART; LEVEL: STD; PKG_TYPE: PKG; CAM_PREFERRED: 1; DXDB_LIBNAME: RESISTORS; TEMP: -55C TO 155C; DES: R132; DEVICE: DEV; DATE: 28-Jan-10
footprint PKG
footprint 1812_R_V1
footprint 2512_2010_R_WHP
pins: 1 N1, 2 N2

## RES.1_1
designator R?, comment value 0R,5%, 1/4W  (hidden comment: DEV)
0R,5%, 1/4W; MANUPARTNUM: CR060000J001; LEVEL: STD; PKG_TYPE: RESC3216_IS1206N; POWER_RATING: 1/8W; TOLERANCE: N/A%; DXDB_LIBNAME: RESISTORS; ECAD#: 300-00004-00; STD_DESC: RES METF 0.0 OHM SM1206; TEMP: -55C TO 155C; DEV_PKG: SM1206; CAM_PREFERRED: 2; EDC_P/N: W10113496; DES: R115; DEVICE: DEV; DATE: 18-Sep-06; SUPPLIER#2_P/N: RK73Z2BTTD; SUPPLIER#2_NAME: KOA SPEER ELEK; SUPPLIER#1_NAME: COMPOSTAR; STATUS: ACTIVE
footprint RESC3216_IS1206N
footprint 1206_R_V2
footprint 1206_O_V1
footprint 1206_O_V0
pins: 1 N1, 2 N2

## RES.1_2
designator R?, comment value 0R,5%, 1/4W  (hidden comment: DEV)
0R,5%, 1/4W; MANUPARTNUM: CR060000J001; LEVEL: STD; PKG_TYPE: RESC3216_IS1206N; POWER_RATING: 1/8W; TOLERANCE: N/A%; DXDB_LIBNAME: RESISTORS; ECAD#: 300-00004-00; STD_DESC: RES METF 0.0 OHM SM1206; TEMP: -55C TO 155C; DEV_PKG: SM1206; CAM_PREFERRED: 2; EDC_P/N: W10113496; DES: R113; DEVICE: DEV; DATE: 18-Sep-06; SUPPLIER#2_P/N: RK73Z2BTTD; SUPPLIER#2_NAME: KOA SPEER ELEK; SUPPLIER#1_NAME: COMPOSTAR; STATUS: ACTIVE
footprint RESC3216_IS1206N
footprint 1206_R_V2
footprint 1206_O_V0
pins: 1 N1, 2 N2

## RES.1_3
designator R?, comment value 10K  POWER_RATING: 1/10W  TOLERANCE: 5%  (hidden comment: DEV)
10K; MANUPARTNUM: CR030103J001; LEVEL: STD; PKG_TYPE: RESC1608_IS0603N; DXDB_LIBNAME: RESISTORS; ECAD#: 300-00002-00; STD_DESC: RES METF 10K 1/10W 5% SM0603; TEMP: -55C TO 155C; DEV_PKG: SM0603; CAM_PREFERRED: 1; EDC_P/N: W10113253; DES: R137; DEVICE: DEV; DATE: 18-Sep-06; SUPPLIER#2_P/N: RK73B1JTTD103J; SUPPLIER#2_NAME: KOA SPEER ELEK; SUPPLIER#1_NAME: COMPOSTAR; STATUS: ACTIVE
footprint RESC1608_IS0603N
footprint 0603_R_V4
footprint 0603_O_V1
pins: 1 N1, 2 N2

## RES.1_4
designator R?, comment value 220  POWER_RATING: 1/10W  TOLERANCE: 5%  (hidden comment: DEV)
220; MANUPARTNUM: CR030221J001; LEVEL: STD; PKG_TYPE: RESC1608_IS0603N; DXDB_LIBNAME: RESISTORS; ECAD#: 300-00002-00; STD_DESC: RES METF 220 OHM 1/10W 5% SM0603; TEMP: -55C TO 155C; VOLTAGE: 50V; DEV_PKG: SM0603; CAM_PREFERRED: 2; EDC_P/N: W10113213; DES: R70; DEVICE: DEV; DATE: 18-Sep-06; SUPPLIER#2_P/N: RK73B1JTTD221J; SUPPLIER#2_NAME: KOA SPEER ELEK; SUPPLIER#1_NAME: COMPOSTAR; STATUS: ACTIVE
footprint RESC1608_IS0603N
footprint 0603_R_V4
footprint 0603_O_V1
footprint 0603_R_V3
pins: 1 N1, 2 N2

## RES.1_5
designator R?, comment value 0R, 1/10W,5%  (hidden comment: R144)
0R, 1/10W,5%; MANUPARTNUM: CR060000J001; DEVICE: DEV; LEVEL: STD; PKG_TYPE: RESC3216_IS1206N; POWER_RATING: 1/8W; TOLERANCE: N/A%; DXDB_LIBNAME: RESISTORS; ECAD#: 300-00004-00; STD_DESC: RES METF 0.0 OHM SM1206; TEMP: -55C TO 155C; DEV_PKG: SM1206; CAM_PREFERRED: 2; EDC_P/N: W10113496; DATE: 18-Sep-06; SUPPLIER#2_P/N: RK73Z2BTTD; SUPPLIER#2_NAME: KOA SPEER ELEK; SUPPLIER#1_NAME: COMPOSTAR; STATUS: ACTIVE; DES: R144
footprint RESC3216_IS1206N
footprint 1206_R_V2
footprint 1206_O_V0
footprint 0603_O_V0
pins: 1 N1, 2 N2

## RES.1_6
designator R?, comment value 0  POWER_RATING: 1/2W  (hidden comment: DEV)
DXDB_LIBNAME: RESISTORS; STD_DESC: RES METF 0.0 OHM SM1210; DES: R143; DATE: 18-Sep-06
footprint RESC3216_IS1206N
footprint 1206_R_V2
footprint 1210_R_V1
footprint 2010_R_V1
pins: 1 N1, 2 N2

## RES.1_7
designator R?, comment value 1K  POWER_RATING: 1/10W  TOLERANCE: 5%  (hidden comment: DEV)
1K; MANUPARTNUM: CR030102J001; LEVEL: STD; PKG_TYPE: RESC1608_IS0603N; DXDB_LIBNAME: RESISTORS; ECAD#: 300-00002-00; STD_DESC: RES METF 1.0K 1/10W 5% SM0603; TEMP: -55C TO 155C; DEV_PKG: SM0603; CAM_PREFERRED: 1; EDC_P/N: W10113229; DES: R55; DEVICE: DEV; DATE: 18-Sep-06; SUPPLIER#2_P/N: RK73B1JTTD102J; SUPPLIER#2_NAME: KOA SPEER ELEK; SUPPLIER#1_NAME: COMPOSTAR; STATUS: ACTIVE
footprint RESC1608_IS0603N
footprint 0603_R_V4
footprint 0603_R_V3
pins: 1 N1, 2 N2

## RES.1_8
designator R?, comment value 56K  POWER_RATING: 3/4W  TOLERANCE: 5%  (hidden comment: DEV)
56K; MANUPARTNUM: RK73B2HTTD563J; LEVEL: STD; PKG_TYPE: RESC5025_IS2010N; CAM_PREFERRED: 2; DXDB_LIBNAME: RESISTORS; ECAD#: 300-00006-00; STD_DESC: RES METF  56K 5% 1/2W SM2010; TEMP: -55C TO 125C; VOLTAGE: 200V; DEV_PKG: SM2010; EDC_P/N: W10141922; DES: R91; DEVICE: DEV; DATE: 22-Jun-07; SUPPLIER#2_P/N: RC2010JK-0756KL; SUPPLIER#2_NAME: YAGEO; SUPPLIER#1_NAME: KOA SPEER ELEK; STATUS: ACTIVE
footprint RESC5025_IS2010N
footprint 1210_R_WHP
footprint 1210_O_V0
footprint 2010_O_V1
pins: 1 N1, 2 N2

## RES.2
designator R?, comment value 47K  POWER_RATING: 1/10W  TOLERANCE: 5%  (hidden comment: DEV)
47K; MANUPARTNUM: CR030473J001; LEVEL: STD; PKG_TYPE: RESC1608_IS0603N; DXDB_LIBNAME: RESISTORS; ECAD#: 300-00002-00; STD_DESC: RES METF 47K 1/10W 5% SM0603; TEMP: -55C TO 155C; DEV_PKG: SM0603; CAM_PREFERRED: 2; EDC_P/N: W10113269; DES: R101; DEVICE: DEV; DATE: 18-Sep-06; SUPPLIER#2_P/N: RK73B1JTTD473J; SUPPLIER#2_NAME: KOA SPEER ELEK; SUPPLIER#1_NAME: COMPOSTAR; STATUS: ACTIVE
footprint RESC1608_IS0603N
footprint 0603_R_V4
pins: 1 N1, 2 N2

## RES.2_1
designator R?, comment value 10K  POWER_RATING: 1/10W  TOLERANCE: 5%  (hidden comment: DEV)
10K; MANUPARTNUM: CR030103J001; LEVEL: STD; PKG_TYPE: RESC1608_IS0603N; DXDB_LIBNAME: RESISTORS; ECAD#: 300-00002-00; STD_DESC: RES METF 10K 1/10W 5% SM0603; TEMP: -55C TO 155C; DEV_PKG: SM0603; CAM_PREFERRED: 1; EDC_P/N: W10113253; DES: R65; DEVICE: DEV; DATE: 18-Sep-06; SUPPLIER#2_P/N: RK73B1JTTD103J; SUPPLIER#2_NAME: KOA SPEER ELEK; SUPPLIER#1_NAME: COMPOSTAR; STATUS: ACTIVE
footprint RESC1608_IS0603N
footprint 0603_R_V4
footprint 0603_O_V1
footprint 0603_R_V3
pins: 1 N1, 2 N2

## RES.2_2
designator R?, comment value 15K  POWER_RATING: 1/10W  TOLERANCE: 5%  (hidden comment: DEV)
15K; MANUPARTNUM: CR030153J001; LEVEL: STD; PKG_TYPE: RESC1608_IS0603N; DXDB_LIBNAME: RESISTORS; ECAD#: 300-00002-00; STD_DESC: RES METF 15K 1/10W 5% SM0603; TEMP: -55C TO 155C; VOLTAGE: 50V; DEV_PKG: SM0603; CAM_PREFERRED: 2; EDC_P/N: W10113257; DES: R35; DEVICE: DEV; DATE: 18-Sep-06; SUPPLIER#2_P/N: RK73B1JTTD153J; SUPPLIER#2_NAME: KOA SPEER ELEK; SUPPLIER#1_NAME: COMPOSTAR; STATUS: ACTIVE
footprint RESC1608_IS0603N
footprint 0603_R_V4
footprint 0603_O_V1
pins: 1 N1, 2 N2

## RES.2_3
designator R?, comment value 1.5K  POWER_RATING: 1/4W  TOLERANCE: 5%  (hidden comment: DEV)
1.5K; MANUPARTNUM: CR060152J001; LEVEL: STD; PKG_TYPE: RESC3216_IS1206N; DXDB_LIBNAME: RESISTORS; ECAD#: 300-00004-00; STD_DESC: RES METF 1.5K 1/4W 5% SM1206; TEMP: -55C TO 155C; DEV_PKG: SM1206; CAM_PREFERRED: 2; EDC_P/N: W10113573; DES: R85; DEVICE: DEV; DATE: 18-Sep-06; SUPPLIER#2_P/N: RK73B2BTTD152J; SUPPLIER#2_NAME: KOA SPEER ELEK; SUPPLIER#1_NAME: COMPOSTAR; STATUS: ACTIVE
footprint RESC3216_IS1206N
footprint 1206_R_V2
pins: 1 N1, 2 N2

## RES.2_4
designator R?, comment value 1.5K  POWER_RATING: 1/4W  TOLERANCE: 5%  (hidden comment: R99)
1.5K; MANUPARTNUM: RK73B2BTTD152J; DEVICE: DEV; LEVEL: STD; PKG_TYPE: RESC3216_IS1206N; TEMP: -55C TO 155C; CAM_PREFERRED: 2; DXDB_LIBNAME: RESISTORS; ECAD#: 300-00004-00; STD_DESC: RES METF 1.5K 1/4W 5% SM1206; DEV_PKG: SM1206; EDC_P/N: W10113573; DATE: 18-Sep-06; SUPPLIER#2_P/N: RC1206JR-071K5L; SUPPLIER#2_NAME: YAGEO; SUPPLIER#1_NAME: KOA SPEER ELEK; STATUS: ACTIVE; DES: R99
footprint RESC3216_IS1206N
footprint 1206_R_V2
footprint 1206_O_V0
pins: 1 N1, 2 N2

## RES.2_5
designator R?, comment value 10K  POWER_RATING: 1/10W  TOLERANCE: 5%  (hidden comment: DEV)
10K; MANUPARTNUM: CR030103J001; LEVEL: STD; PKG_TYPE: RESC1608_IS0603N; DXDB_LIBNAME: RESISTORS; ECAD#: 300-00002-00; STD_DESC: RES METF 10K 1/10W 5% SM0603; TEMP: -55C TO 155C; DEV_PKG: SM0603; CAM_PREFERRED: 1; EDC_P/N: W10113253; DES: R52; DEVICE: DEV; DATE: 18-Sep-06; SUPPLIER#2_P/N: RK73B1JTTD103J; SUPPLIER#2_NAME: KOA SPEER ELEK; SUPPLIER#1_NAME: COMPOSTAR; STATUS: ACTIVE
footprint RESC1608_IS0603N
footprint 0603_R_V4
footprint 0603_R_V3
pins: 1 N1, 2 N2

## RES.2_6
designator R?, comment value 75  POWER_RATING: 1/4W  TOLERANCE: 5%  (hidden comment: DEV)
75; MANUPARTNUM: CR060750J001; LEVEL: STD; PKG_TYPE: RESC3216_IS1206N; DXDB_LIBNAME: RESISTORS; ECAD#: 300-00004-00; STD_DESC: RES METF 75 OHM 1/4W 5% SM1206; TEMP: -55C TO 155C; DEV_PKG: SM1206; CAM_PREFERRED: 2; EDC_P/N: W10113542; DES: R97; DEVICE: DEV; DATE: 18-Sep-06; SUPPLIER#2_P/N: RK73B2BTTD750J; SUPPLIER#2_NAME: KOA SPEER ELEK; SUPPLIER#1_NAME: COMPOSTAR; STATUS: ACTIVE
footprint RESC3216_IS1206N
footprint 1206_R_V2
footprint 1206_O_V1
pins: 1 N1, 2 N2

## RESONATOR-3PIN.1
designator Y?, comment FREQUENCY: 16 MHz  (hidden comment: DEV)
MANUPARTNUM: CSTCE16M0V53-R0; LEVEL: STD; PKG_TYPE: XTALS3_MUR_CSTCE_VQ; CAM_PREFERRED: 2; DXDB_LIBNAME: FREQUENCY; ECAD#: 180-00003-00; AML_REVISION: U; STD_DESC: RESONATOR 16MHZ 0.5% 80C SMT ROHS; TEMP: 80C; LOAD_CAP_PF: 15; TOLERANCE: .5%; DEV_PKG: SMT; EDC_P/N: W10123143; DES: Y1; DEVICE: DEV; PACKAGE: PACK; DATE: 15-Feb-07; SUPPLIER#1_NAME: MURATA; STATUS: ACTIVE
footprint XTALS3_MUR_CSTCE_VQ
footprint XTAL_WHP
pins: 1 IN (io), 2 GND (io), 3 OUT (io)

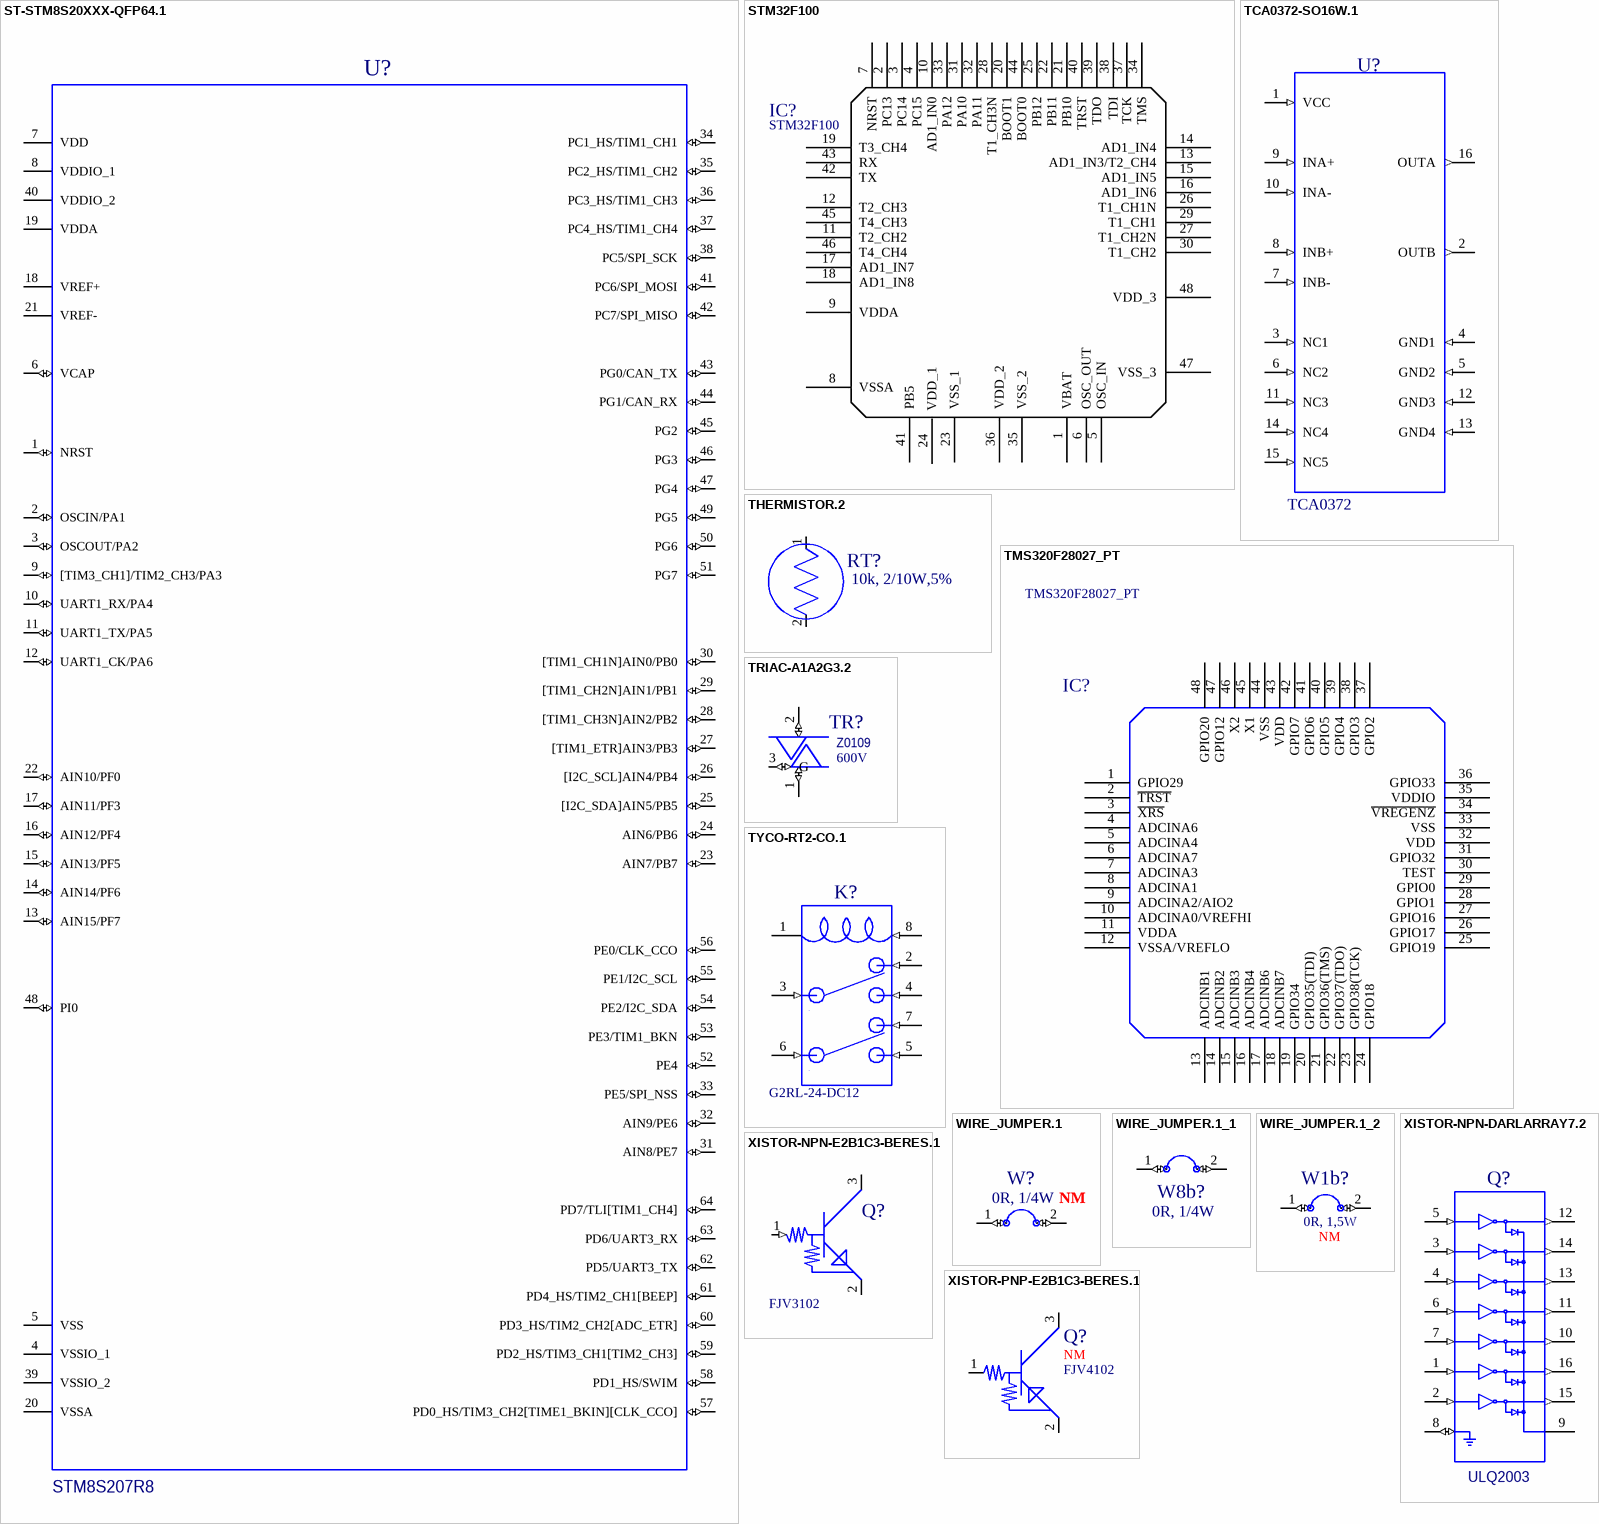
[diagram p5: symbols ST-STM8S20XXX-QFP64.1 to XISTOR-PNP-E2B1C3-BERES.1]

## ST-STM8S20XXX-QFP64.1
designator U?, comment value STM8S207R8  (hidden comment: DEV)
STM8S207R8; MANUPARTNUM: STM8S207R8T3; LEVEL: STD; PKG_TYPE: TSQFP50P1200X1200_64N; DXDB_LIBNAME: INTEGRATED CIRCUITS; ECAD#: 140-00050-00; STD_DESC: IC MICRO 5.5V 8B 64K FLSH STM8S207R8T6 L; TEMP: -40C TO 85C; DEV_PKG: LQFP64; CAM_PREFERRED: 1; EDC_P/N: W10225411; DES: U17; DEVICE: DEV; PACKAGE: PACK; DATE: 22-Oct-08; SUPPLIER#2_P/N: STM8S207R8T6; SUPPLIER#2_NAME: ST MICRO; SUPPLIER#1_NAME: ST MICRO; STATUS: ACTIVE
footprint TSQFP50P1200X1200_64N
footprint QFPT10X10-64N_WHP
pins: 1 NRST (io), 2 OSCIN/PA1 (io), 3 OSCOUT/PA2 (io), 4 VSSIO_1, 5 VSS, 6 VCAP (io), 7 VDD, 8 VDDIO_1, 9 [TIM3_CH1]/TIM2_CH3/PA3 (io), 10 UART1_RX/PA4 (io), 11 UART1_TX/PA5 (io), 12 UART1_CK/PA6 (io), 13 AIN15/PF7 (io), 14 AIN14/PF6 (io), 15 AIN13/PF5 (io), 16 AIN12/PF4 (io), 17 AIN11/PF3 (io), 18 VREF+, 19 VDDA, 20 VSSA, 21 VREF-, 22 AIN10/PF0 (io), 23 AIN7/PB7 (io), 24 AIN6/PB6 (io), 25 [I2C_SDA]AIN5/PB5 (io), 26 [I2C_SCL]AIN4/PB4 (io), 27 [TIM1_ETR]AIN3/PB3 (io), 28 [TIM1_CH3N]AIN2/PB2 (io), 29 [TIM1_CH2N]AIN1/PB1 (io), 30 [TIM1_CH1N]AIN0/PB0 (io), 31 AIN8/PE7 (io), 32 AIN9/PE6 (io), 33 PE5/SPI_NSS (io), 34 PC1_HS/TIM1_CH1 (io), 35 PC2_HS/TIM1_CH2 (io), 36 PC3_HS/TIM1_CH3 (io), 37 PC4_HS/TIM1_CH4 (io), 38 PC5/SPI_SCK (io), 39 VSSIO_2, 40 VDDIO_2, 41 PC6/SPI_MOSI (io), 42 PC7/SPI_MISO (io), 43 PG0/CAN_TX (io), 44 PG1/CAN_RX (io), 45 PG2 (io), 46 PG3 (io), 47 PG4 (io), 48 PI0 (io), 49 PG5 (io), 50 PG6 (io), 51 PG7 (io), 52 PE4 (io), 53 PE3/TIM1_BKN (io), 54 PE2/I2C_SDA (io), 55 PE1/I2C_SCL (io), 56 PE0/CLK_CCO (io), 57 PD0_HS/TIM3_CH2[TIME1_BKIN][CLK_CCO] (io), 58 PD1_HS/SWIM (io), 59 PD2_HS/TIM3_CH1[TIM2_CH3] (io), 60 PD3_HS/TIM2_CH2[ADC_ETR] (io), 61 PD4_HS/TIM2_CH1[BEEP] (io), 62 PD5/UART3_TX (io), 63 PD6/UART3_RX (io), 64 PD7/TLI[TIM1_CH4] (io)

## STM32F100
designator IC?
LQFP48; EECON Code: D_S02521; Text Field: STM32F100C6; Text Field 1: ST; Componente: DSP LQFP48; DES: IC601; Value: STM32F100
footprint LQFP48 - R_V0 (DSP ST PARA UTILIZADO NO SHARP 4.0)
pins: 1 VBAT, 2 PC13, 3 PC14, 4 PC15, 5 OSC_IN, 6 OSC_OUT, 7 NRST, 8 VSSA, 9 VDDA, 10 AD1_IN0, 11 T2_CH2, 12 T2_CH3, 13 AD1_IN3/T2_CH4, 14 AD1_IN4, 15 AD1_IN5, 16 AD1_IN6, 17 AD1_IN7, 18 AD1_IN8, 19 T3_CH4, 20 BOOT1, 21 PB10, 22 PB11, 23 VSS_1, 24 VDD_1, 25 PB12, 26 T1_CH1N, 27 T1_CH2N, 28 T1_CH3N, 29 T1_CH1, 30 T1_CH2, 31 PA10, 32 PA11, 33 PA12, 34 TMS, 35 VSS_2, 36 VDD_2, 37 TCK, 38 TDI, 39 TDO, 40 TRST, 41 PB5, 42 TX, 43 RX, 44 BOOT0, 45 T4_CH3, 46 T4_CH4, 47 VSS_3, 48 VDD_3

## TCA0372-SO16W.1
designator U?, comment value TCA0372  (hidden comment: DEV)
TCA0372; MANUPARTNUM: TCA0372BDWR2G; PKG_TYPE: SOIC127P1030_16_D1030N; LEVEL: STD; TEMP: -40C TO 125C; DXDB_LIBNAME: INTEGRATED CIRCUITS; ECAD#: 100-00006-00; STD_DESC: IC, OP AMP DUAL 1A SOL16; DEV_PKG: SO16; CAM_PREFERRED: 2; EDC_P/N: W10120710; DES: U16; PACKAGE: PACK; DEVICE: DEV; DATE: 17-Jan-07; SUPPLIER#2_P/N: TCA0372DWG; SUPPLIER#2_NAME: ON SEMICOND; SUPPLIER#1_NAME: ON SEMICOND; STATUS: ACTIVE
footprint SOIC127P1030_16_D1030N
footprint SOIC-16W_R_WHP
pins: 1 VCC (in), 2 OUTB (out), 3 NC1 (in), 4 GND1 (in), 5 GND2 (in), 6 NC2 (in), 7 INB- (in), 8 INB+ (in), 9 INA+ (in), 10 INA- (in), 11 NC3 (in), 12 GND3 (in), 13 GND4 (in), 14 NC4 (in), 15 NC5 (in), 16 OUTA (out)

## THERMISTOR.2
designator RT?, comment value 10k, 2/10W,5%  (hidden comment: DEV)
10k, 2/10W,5%; MANUPARTNUM: NCP21XV103J03RA; LEVEL: STD; PKG_TYPE: RESC2012_IS0805N; DXDB_LIBNAME: TRANSDUCERS; ECAD#: 500-00004-00; STD_DESC: THERMISTOR 10K 5% NTC SM0805; DEV_PKG: SM0805; CAM_PREFERRED: 3; EDC_P/N: W10135688; DES: RT1; DEVICE: DEV; DATE: 10-Apr-07; SUPPLIER#1_NAME: MURATA; STATUS: ACTIVE
footprint RESC2012_IS0805N
footprint 0805_R_V4
pins: 1 N1 (io), 2 N2 (io)

## TMS320F28027_PT
designator IC?
LQFP48; EECON Code: XXX; Text Field 1: TEXAS; Componente: DSX LQFP48; Text Field: TMS320F28027_PT; DES: XXX; Value: TMS320F28027_PT
footprint LQFP48 - R_V0 (DSP ST)
pins: 1 GPIO29, 2 ~{TRST}, 3 ~{XRS}, 4 ADCINA6, 5 ADCINA4, 6 ADCINA7, 7 ADCINA3, 8 ADCINA1, 9 ADCINA2/AIO2, 10 ADCINA0/VREFHI, 11 VDDA (power), 12 VSSA/VREFLO (power), 13 ADCINB1 (power), 14 ADCINB2 (power), 15 ADCINB3 (power), 16 ADCINB4 (power), 17 ADCINB6 (power), 18 ADCINB7 (power), 19 GPIO34 (power), 20 GPIO35(TDI) (power), 21 GPIO36(TMS) (power), 22 GPIO37(TDO) (power), 23 GPIO38(TCK) (power), 24 GPIO18 (power), 25 GPIO19 (power), 26 GPIO17 (power), 27 GPIO16 (power), 28 GPIO1 (power), 29 GPIO0 (power), 30 TEST (power), 31 GPIO32 (power), 32 VDD (power), 33 VSS (power), 34 ~{VREGENZ} (power), 35 VDDIO (power), 36 GPIO33 (power), 37 GPIO2 (power), 38 GPIO3 (power), 39 GPIO4 (power), 40 GPIO5 (power), 41 GPIO6 (power), 42 GPIO7 (power), 43 VDD (power), 44 VSS (power), 45 X1 (power), 46 X2 (power), 47 GPIO12 (power), 48 GPIO20 (power)

## TRIAC-A1A2G3.2
designator TR?, comment value Z0109  VOLTAGE: 600V  (hidden comment: DEV)
Z0109; MANUPARTNUM: Z0103MN; LEVEL: STD; PKG_TYPE: SOT230P700_4_D650_TCN; I_SURGE: 8; IGT: 3; IT: 1A; CAM_PREFERRED: 2; DXDB_LIBNAME: TRIACS; ECAD#: 240-00002-00; STD_DESC: TRIAC SENSITIVE GATE, 600V 1A; DEV_PKG: SOT223; EDC_P/N: W10120712; DES: TR1; DEVICE: DEV; DATE: 13-Dec-06; SUPPLIER#2_P/N: Z0103MN; SUPPLIER#2_NAME: NXP; SUPPLIER#1_NAME: ST MICRO; STATUS: ACTIVE
footprint SOT230P700_4_D650_TCN
footprint SOT-223_R_WHP
pins: 1 A1 (io), 2 A2 (io), 3 G (io)

## TYCO-RT2-CO.1
designator K?, comment value G2RL-24-DC12  (hidden comment: DEV)
G2RL-24-DC12; MANUPARTNUM: RT424012F; LEVEL: STD; PKG_TYPE: RLYT8_AMP_RT2; TEMP: -40C TO 85C; CAM_PREFERRED: 2; DXDB_LIBNAME: RELAYS; ECAD#: 400-00001-00; STD_DESC: RELAY GEN RT424012F DPDT 8A 12V; FORM_CONTACTS: 2P/2T, 2C; I_CONTACTS: 12A; COIL_RES: 272; VOLTAGE: 12V; DEV_PKG: RADIAL; EDC_P/N: W10120711; DES: K8; DEVICE: DEV; PACKAGE: PACK; DATE: 13-Dec-06; SUPPLIER#2_P/N: 888-2CH-F-S 12VDC; SUPPLIER#2_NAME: SONG CHUAN; SUPPLIER#1_NAME: TYCO SCHRACK; STATUS: ACTIVE
footprint RLYT8_AMP_RT2
footprint RELAY_RT424012F_WHP
pins: 1 C1, 2 NC1 (in), 3 COM1 (in), 4 NO1 (in), 5 NO2 (in), 6 COM2 (in), 7 NC2 (in), 8 C2 (in)

## WIRE_JUMPER.1
designator W?, comment value 0R, 1/4W  OBS: NM  (hidden comment: DEV)
0R, 1/4W; MANUPARTNUM: <ECM OPTION>; LEVEL: STD; PKG_TYPE: JUMPERWIRET2_20AWG_20MM; CAM_PREFERRED: 5; DXDB_LIBNAME: OTHER ELECTRICAL PARTS; ECAD#: 010-00377-00; STD_DESC: OPTION WIRE, 22 AWG, SOLID TINNED CU; DEV_PKG: PTH; EDC_P/N: W10327183; DES: W9; DEVICE: DEV; DATE: 31-Mar-10; SUPPLIER#1_NAME: <ECM OPTION>; STATUS: PRELIM
footprint JUMPERWIRET2_20AWG_20MM
footprint AXIAL_W8
footprint JUMPER-TAM-11MM_V1
pins: 1 N1 (io), 2 N2 (io)

## WIRE_JUMPER.1_1
designator W8b?, comment value 0R, 1/4W  (hidden comment: P_P193500100)
0R, 1/4W; MANUPARTNUM: <ECM OPTION>; LEVEL: STD; DEVICE: DEV; PKG_TYPE: JUMPERWIRET2_20AWG_20MM; CAM_PREFERRED: 5; DXDB_LIBNAME: OTHER ELECTRICAL PARTS; ECAD#: 010-00377-00; STD_DESC: OPTION WIRE, 22 AWG, SOLID TINNED CU; DEV_PKG: PTH; EDC_P/N: W10327183; DES: W8b; DATE: 31-Mar-10; SUPPLIER#1_NAME: <ECM OPTION>; STATUS: PRELIM
footprint JUMPERWIRET2_20AWG_20MM
footprint AXIAL_W5
footprint JUMPER-TAM-11MM_V1
footprint 2512_R_WHP (chip resistor RK73B3ATTD393J - KOA)
footprint 1206_R_V1
pins: 1 N1 (io), 2 N2 (io)

## WIRE_JUMPER.1_2
designator W1b?, comment value 0R, 1,5W  OBS: NM  (hidden comment: DEV)
0R, 1,5W; MANUPARTNUM: <ECM OPTION>; LEVEL: STD; PKG_TYPE: JUMPERWIRET2_20AWG_20MM; CAM_PREFERRED: 5; DXDB_LIBNAME: OTHER ELECTRICAL PARTS; ECAD#: 010-00377-00; STD_DESC: OPTION WIRE, 22 AWG, SOLID TINNED CU; DEV_PKG: PTH; EDC_P/N: W10327183; DES: W1b; DEVICE: DEV; DATE: 31-Mar-10; SUPPLIER#1_NAME: <ECM OPTION>; STATUS: PRELIM
footprint JUMPERWIRET2_20AWG_20MM
footprint AXIAL_W5
footprint JUMPER-TAM-11MM_V1
footprint 2512_R_WHP (chip resistor RK73B3ATTD393J - KOA)
pins: 1 N1 (io), 2 N2 (io)

## XISTOR-NPN-DARLARRAY7.2
designator Q?, comment value ULQ2003  (hidden comment: DEV)
ULQ2003; MANUPARTNUM: MC1413BDR2G; LEVEL: STD; PKG_TYPE: SOIC127P600_16_D990N; POWER_RATING: PWR; DXDB_LIBNAME: INTEGRATED CIRCUITS; ECAD#: 220-00001-01; STD_DESC: IC-DRV, 7 CH DARLINGTON, SOIC16; TEMP: -20C TO 85C; DEV_PKG: SO16; CAM_PREFERRED: 1; EDC_P/N: W10298949; DES: Q16; DEVICE: DEV; PACKAGE: PACK; DATE: 15-Oct-09; SUPPLIER#2_P/N: MC1413DR2G; SUPPLIER#2_NAME: ON SEMICOND; SUPPLIER#1_NAME: ON SEMICOND; STATUS: ACTIVE
footprint SOIC127P600_16_D990N
footprint SO-16_R_WHP
pins: 1 N1 (in), 2 N2 (in), 3 N3 (in), 4 N4 (in), 5 N5 (in), 6 N6 (in), 7 N7 (in), 8 N8 (io), 9 N9, 10 N10 (out), 11 N11 (out), 12 N12 (out), 13 N13 (out), 14 N14 (out), 15 N15 (out), 16 N16 (out)

## XISTOR-NPN-E2B1C3-BERES.1
designator Q?, comment value FJV3102  (hidden comment: DEV)
FJV3102; MANUPARTNUM: PDTC114ET; LEVEL: STD; PKG_TYPE: SOT95P237_3_D290N; DXDB_LIBNAME: TRANSISTORS; ECAD#: 220-00005-00; STD_DESC: XSTR NPN-BR MMUN2211LT1 50V 100MA SOT23; TEMP: -55C TO 150C; POWER_RATING: .246W; HFE: 30; VCE: 50V; IC_AMPS: 100mA; DEV_PKG: SOT23; CAM_PREFERRED: 1; EDC_P/N: W10123051; DES: Q12; DEVICE: DEV; PACKAGE: PACK; DATE: 15-Jan-07; SUPPLIER#2_P/N: MMUN2211LT1G; SUPPLIER#2_NAME: ON SEMICOND; SUPPLIER#1_NAME: NXP; STATUS: ACTIVE
footprint SOT95P237_3_D290N
footprint SOT-23_R_V1_WHP
pins: 1 B (in), 2 E (io), 3 C (io)

## XISTOR-PNP-E2B1C3-BERES.1
designator Q?, comment OBS: NM  PN: FJV4102  (hidden comment: Q20)
MANUPARTNUM: PDTA114ET; LEVEL: STD; DEVICE: DEV; PKG_TYPE: SOT95P237_3_D290N; DXDB_LIBNAME: TRANSISTORS; ECAD#: 220-00006-00; STD_DESC: XSTR PNP-BR MMUN2111LT1G  SOT23; TEMP: -55C TO 150C; POWER_RATING: .246W; HFE: 30; VCE: 50V; IC_AMPS: 100mA; DEV_PKG: SOT23; CAM_PREFERRED: 1; EDC_P/N: W10135680; PACKAGE: PACK; DATE: 09-Apr-07; SUPPLIER#2_P/N: MMUN2111LT1G; SUPPLIER#2_NAME: ON SEMICOND; SUPPLIER#1_NAME: NXP; STATUS: ACTIVE; DES: Q20
footprint SOT95P237_3_D290N
footprint SOT-23_R_V1_WHP
pins: 1 B (io), 2 E (io), 3 C (io)


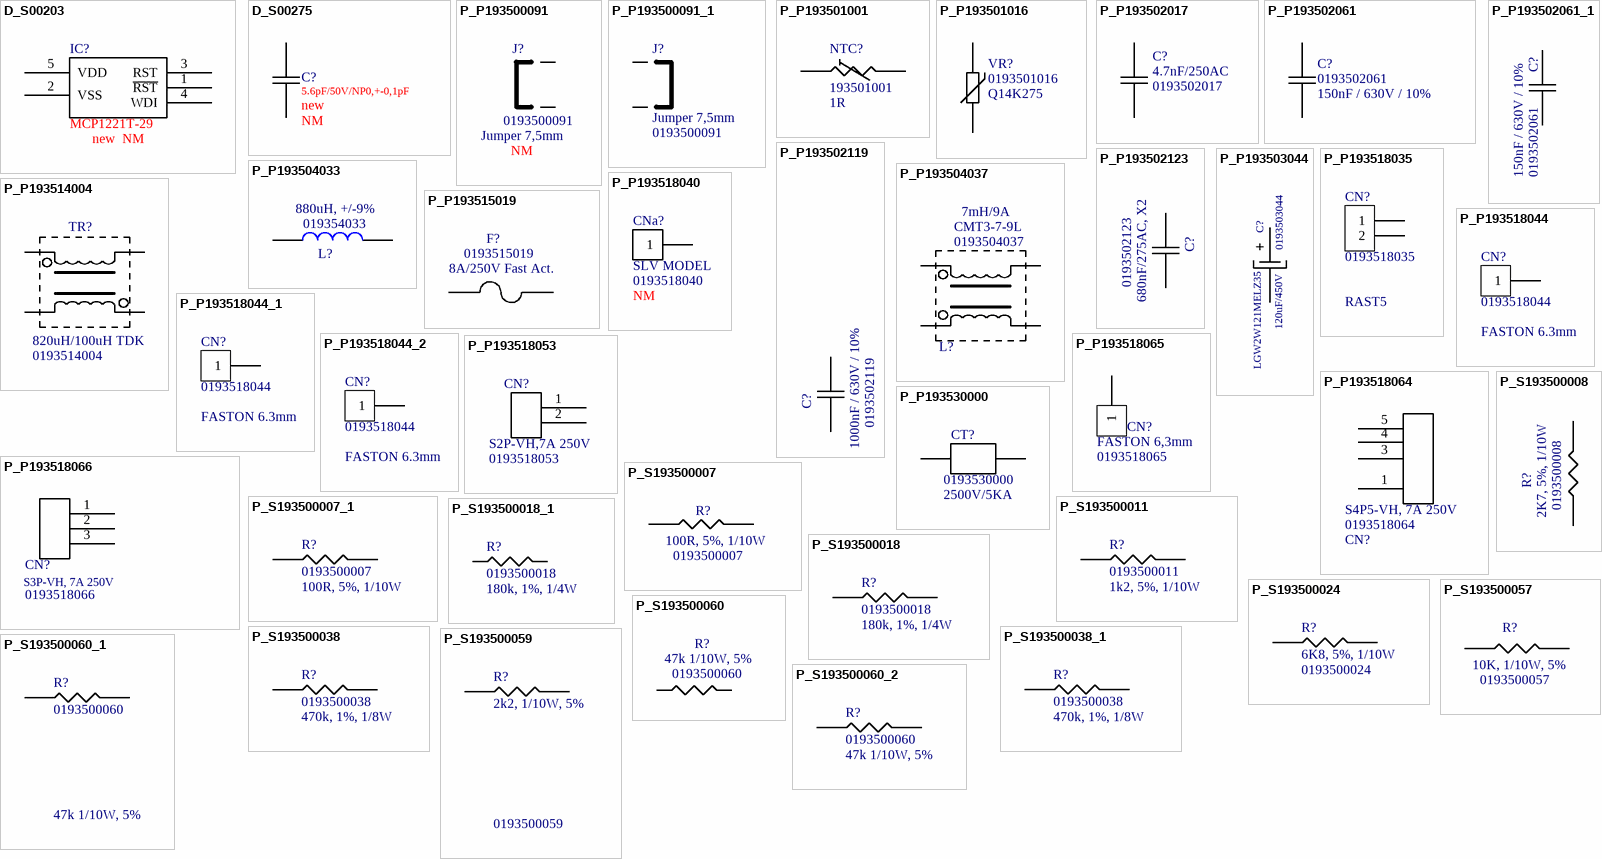
[diagram p6: symbols D_S00203 to P_S193500060_2]

## D_S00203
designator IC?  value MCP1221T-29  EECON CODE: new  Obs: NM  (hidden comment: D_S00203)
MCP1221T-29; COMPONENT: WDT; Text Field3: Microchip; Text Field2: MCP1221T-29
footprint SOT-23-5_R_V1
footprint S0-8_O_V0
pins: 1 ~{RST}, 2 VSS, 3 RST, 4 WDI, 5 VDD

## D_S00275
designator C?, comment value 5.6pF/50V/NP0,+-0,1pF  EECON CODE: new  Obs: NM  (hidden comment: 2.2nF/NM)
5.6pF/50V/NP0,+-0,1pF; Text Field1: 223886718568; COMPONENT: CAP.,0603 SIZE,5,6pF/50V, NP0,+-0,1pF; Text Field2: PHYCOMP
footprint 0603_R_V0
footprint 0603_O_V0
pins: 1, 2

## P_P193500091
designator J?, comment value Jumper 7,5mm  EECON CODE: 0193500091  OBS: NM  (hidden comment: JUMPER 8,6MM)
Jumper 7,5mm; COMPONENT: LEADED JUMPER 7,5mm
footprint JUMPER-TAM-7MM_V0
footprint JUMPER-TAM-7.5MM_V0
pins: 1 PINO1, 2 PINO2

## P_P193500091_1
designator J?, comment value Jumper 7,5mm  EECON CODE: 0193500091  (hidden comment: JUMPER 8,6MM)
Jumper 7,5mm; COMPONENT: LEADED JUMPER 7,5mm
footprint JUMPER-TAM-7MM_V0
footprint JUMPER-TAM-7.5MM_V0
pins: 1 PINO1, 2 PINO2

## P_P193501001
designator NTC?  value 1R  EECON CODE: 193501001  (hidden comment: *)
1R; COMPONENT: NTC 1R; Text Field2: B57237-S109-M51  @ REEL PACKING 1000PÇS; Text Field3: EPCOS; Text Field4: B57237-S109-M54 @ AMMOPACKING KINKED 750PÇS; Text Field5: EPCOS
footprint NTC-TAM-A_V0
footprint NTC-TAM-A_V2
pins: 1, 2

## P_P193501016
designator VR?  value Q14K275  EECON CODE: 0193501016  (hidden comment: P_P193501016)
VARISTOR, Q14K275; Text Field2: EPCOS; Text Field1: B72214Q0271K101; COMPONENT: VARISTOR, Q14K275
footprint VAR-Q14K275_V0
footprint VAR_S20K275_V0
pins: 1, 2

## P_P193502017
designator C?  value 4.7nF/250AC  EECON CODE: 0193502017  (hidden comment: *)
CAP., 4.7nF/250AC, Y2 TYPE; Text Field2: BC COMPONENTS; Text Field3: B81122-C1472-M735; Text Field4: EPCOS; Text Field5: 2222 336 63472 @ REEL 900PÇS; Text Field1: 2222 336 60472 @ Loose in Box 750PÇS % 2222 336 66472 @ Loose in Box 750PÇS; COMPONENT: POLYPROPYLENE CAP., 4.7nF/250AC, Y2 TYPE; Text Field6: BC COMPONENTS
footprint CAP-EMC-TAM-B_V0
footprint CAP-EMC-TAM-H_V0
pins: 1, 2

## P_P193502061
designator C?, comment value 150nF / 630V / 10%  EECON CODE: 0193502061  (hidden comment: 47nF/630V)
CAP., 150nF / 630V / 10%; COMPONENT: POLYPROPILENE CAP., 150nF / 630V / 10%; Text Field2: EPCOS; Text Field3: B32612A6154K289 @ AMMOPACK 680PÇS; Text Field1: B32612A6154K189 @ Tape & Reel 700PÇS; Text Field4: EPCOS
footprint CAP-EMC-TAM-I_V0
footprint CAP-EMC-TAM-I_V1
pins: 1, 2

## P_P193502061_1
designator C?  value 150nF / 630V / 10%  EECON CODE: 0193502061  (hidden comment: *)
CAP., 150nF / 630V / 10%; COMPONENT: POLYPROPILENE CAP., 150nF / 630V / 10%; Text Field2: EPCOS; Text Field3: B32612A6154K289 @ AMMOPACK 680PÇS; Text Field1: B32612A6154K189 @ Tape & Reel 700PÇS; Text Field4: EPCOS
footprint CAP-EMC-TAM-I_V0
pins: 1, 2

## P_P193502119
designator C?  value 1000nF / 630V / 10%  EECON CODE: 0193502119  (hidden comment: *)
POL. CAP., 1000nF / 630V / 10%; COMPONENT: POLYPROPILENE CAP., 1000nF / 630V / 10%; Text Field2: EPCOS; Text Field1: B32614A6105K010 @ untaped lead length 6-1mm
footprint CAP-EMC-TAM-I_V0
footprint CAP-EMC-TAM-J_V0
pins: 1, 2

## P_P193502123
designator C?  value 680nF/275AC, X2  EECON CODE: 0193502123  (hidden comment: *)
POL. CAP., 680nF/275AC, +/- 20%, X2; COMPONENT: POLYPROPYLENE CAP., 680nF/275AC, +/- 20%,  X2 TYPE; Text Field2: VISHAY; Text Field1: BFC233820684
footprint CAP-EMC-TAM-J_V0
pins: 1, 2